# Altium integrated library Microchip Microcontroller 8-Bit PIC17.IntLib: 400 symbols (part 12 of 18)
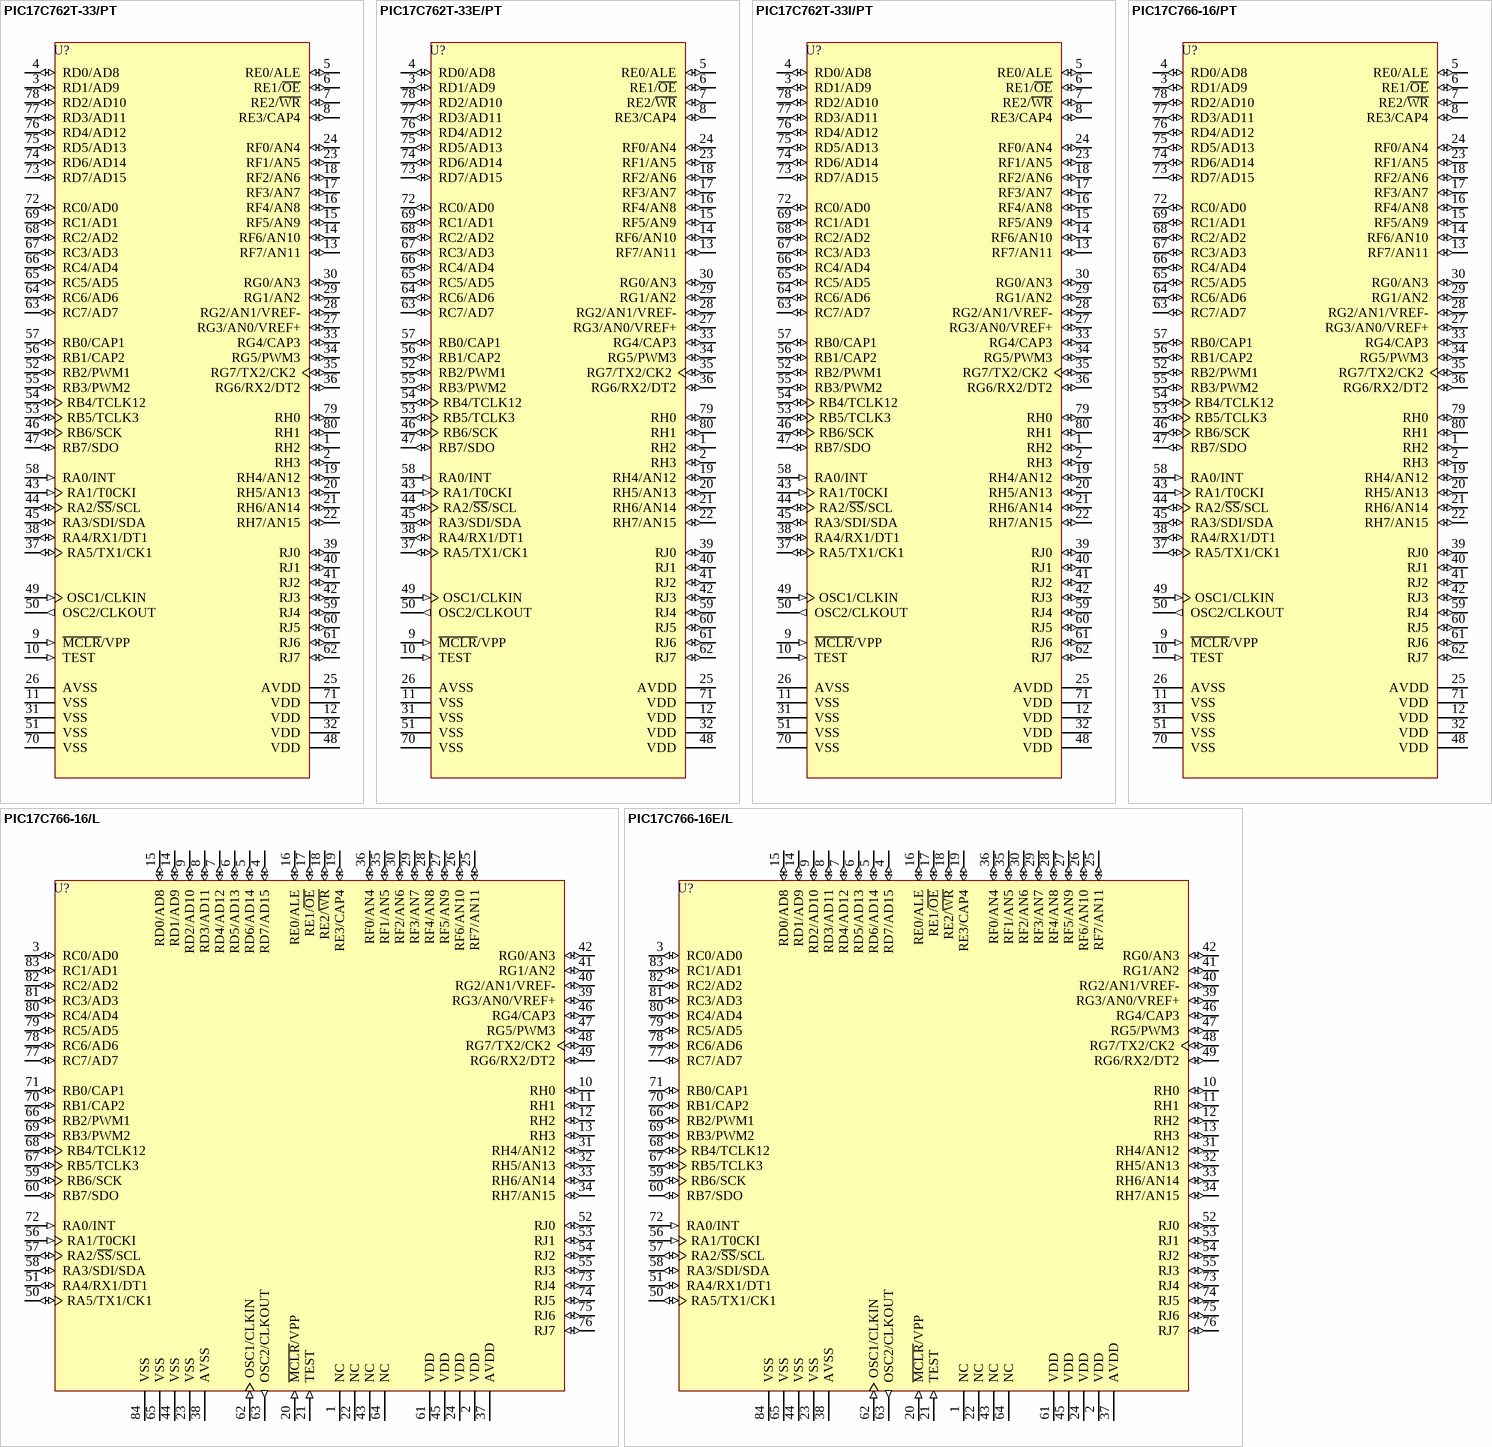
[diagram p52: symbols PIC17C762T-33/PT to PIC17C766-16E/L]

## PIC17C762T-33I/PT
designator U?
High-Performance 8-Bit CMOS EPROM Microcontroller with 10-Bit A/D, 8K (x16) EPROM, 33 MHz, 80-Pin TQFP, Standard VDD Range, Industrial Temperature, Tape and Reel; Note: Not recommended for new designs. Consider PIC18F8520 instead.; Note: Pins RA2 and RA3 can sink up to 60 mA.; Published: 11-Oct-2004; LatestRevisionDate: 13-Apr-2006; LatestRevisionNote: IPC-7351 Footprint Added.; DatasheetVersion: DS30289B_2000; PackageVersion: 2003; PackageReference: TQFP-80; Publisher: Altium Limited; PackageDescription: 80-Pin Thin Plastic Quad Flat Pack 0.5 mm Pitch, 1.0/0.1 mm Lead Form; Code_JEDEC: MS-026; ComponentLink1Description: Manufacturer Link; ComponentLink1URL: http://www.microchip.com; ComponentLink2Description: Datasheet; ComponentLink2URL: http://ww1.microchip.com/downloads/en/DeviceDoc/30289b.pdf; ComponentLink3Description: Packaging Specification; ComponentLink3URL: http://ww1.microchip.com/downloads/en/PackagingSpec/00049AD.pdf
footprint TQFP-80_N (Thin QFP, 80-Leads, Body 12x12mm, Pitch 0.5mm, IPC Medium Density)
footprint TQFP-80_L (Thin QFP, 80-Leads, Body 12x12mm, Pitch 0.5mm, IPC High Density)
footprint TQFP-80_M (Thin QFP, 80-Leads, Body 12x12mm, Pitch 0.5mm, IPC Low Density)
3D model PIC17C762-TQFP-80 (80-Pin Thin Plastic Quad Flat Pack 0.5 mm Pitch, 1.0/0.1 mm Lead Form)
pins: 1 RH2 (io), 2 RH3 (io), 3 RD1/AD9 (io), 4 RD0/AD8 (io), 5 RE0/ALE (io), 6 RE1/~{OE} (io), 7 RE2/~{WR} (io), 8 RE3/CAP4 (io), 9 ~{MCLR}/VPP (in), 10 TEST (in), 11 VSS (power), 12 VDD (power), 13 RF7/AN11 (io), 14 RF6/AN10 (io), 15 RF5/AN9 (io), 16 RF4/AN8 (io), 17 RF3/AN7 (io), 18 RF2/AN6 (io), 19 RH4/AN12 (io), 20 RH5/AN13 (io), 21 RH6/AN14 (io), 22 RH7/AN15 (io), 23 RF1/AN5 (io), 24 RF0/AN4 (io), 25 AVDD (power), 26 AVSS (power), 27 RG3/AN0/VREF+ (io), 28 RG2/AN1/VREF- (io), 29 RG1/AN2 (io), 30 RG0/AN3 (io), 31 VSS (power), 32 VDD (power), 33 RG4/CAP3 (io), 34 RG5/PWM3 (io), 35 RG7/TX2/CK2 (io), 36 RG6/RX2/DT2 (io), 37 RA5/TX1/CK1 (io), 38 RA4/RX1/DT1 (io), 39 RJ0 (io), 40 RJ1 (io), 41 RJ2 (io), 42 RJ3 (io), 43 RA1/T0CKI (in), 44 RA2/~{SS}/SCL (io), 45 RA3/SDI/SDA (io), 46 RB6/SCK (io), 47 RB7/SDO (io), 48 VDD (power), 49 OSC1/CLKIN (in), 50 OSC2/CLKOUT (out), 51 VSS (power), 52 RB2/PWM1 (io), 53 RB5/TCLK3 (io), 54 RB4/TCLK12 (io), 55 RB3/PWM2 (io), 56 RB1/CAP2 (io), 57 RB0/CAP1 (io), 58 RA0/INT (in), 59 RJ4 (io), 60 RJ5 (io), 61 RJ6 (io), 62 RJ7 (io), 63 RC7/AD7 (io), 64 RC6/AD6 (io), 65 RC5/AD5 (io), 66 RC4/AD4 (io), 67 RC3/AD3 (io), 68 RC2/AD2 (io), 69 RC1/AD1 (io), 70 VSS (power), 71 VDD (power), 72 RC0/AD0 (io), 73 RD7/AD15 (io), 74 RD6/AD14 (io), 75 RD5/AD13 (io), 76 RD4/AD12 (io), 77 RD3/AD11 (io), 78 RD2/AD10 (io), 79 RH0 (io), 80 RH1 (io)

## PIC17C766-16/L
designator U?
High-Performance 8-Bit CMOS EPROM Microcontroller with 10-Bit A/D, 16K (x16) EPROM, 16 MHz, 84-Pin PLCC, Standard VDD Range, Commercial Temperature; Note: Not recommended for new designs. Consider PIC18F8520 instead.; Note: Pins RA2 and RA3 can sink up to 60 mA.; Published: 11-Oct-2004; LatestRevisionDate: 13-Apr-2006; LatestRevisionNote: IPC-7351 Footprint Added.; DatasheetVersion: DS30289B_2000; PackageVersion: 2003; PackageReference: PLCC-84; Publisher: Altium Limited; PackageDescription: 84-Pin Plastic Leaded Chip Carrier 1.27 mm Pitch; Code_JEDEC: MO-047; Code_IPC: PLCC-84; ComponentLink1Description: Manufacturer Link; ComponentLink1URL: http://www.microchip.com; ComponentLink2Description: Datasheet; ComponentLink2URL: http://ww1.microchip.com/downloads/en/DeviceDoc/30289b.pdf; ComponentLink3Description: Packaging Specification; ComponentLink3URL: http://ww1.microchip.com/downloads/en/PackagingSpec/00049AD.pdf
footprint PLCC-84_N (Leaded Chip Carrier, 84-Leads, Body 29.3x29.3mm, Pitch 1.27mm, IPC Medium Density)
footprint PLCC-84_L (Leaded Chip Carrier, 84-Leads, Body 29.3x29.3mm, Pitch 1.27mm, IPC High Density)
footprint PLCC-84_M (Leaded Chip Carrier, 84-Leads, Body 29.3x29.3mm, Pitch 1.27mm, IPC Low Density)
3D model PIC17C766-PLCC-84 (84-Pin Plastic Leaded Chip Carrier 1.27 mm Pitch)
pins: 1 NC, 2 VDD (power), 3 RC0/AD0 (io), 4 RD7/AD15 (io), 5 RD6/AD14 (io), 6 RD5/AD13 (io), 7 RD4/AD12 (io), 8 RD3/AD11 (io), 9 RD2/AD10 (io), 10 RH0 (io), 11 RH1 (io), 12 RH2 (io), 13 RH3 (io), 14 RD1/AD9 (io), 15 RD0/AD8 (io), 16 RE0/ALE (io), 17 RE1/~{OE} (io), 18 RE2/~{WR} (io), 19 RE3/CAP4 (io), 20 ~{MCLR}/VPP (in), 21 TEST (in), 22 NC, 23 VSS (power), 24 VDD (power), 25 RF7/AN11 (io), 26 RF6/AN10 (io), 27 RF5/AN9 (io), 28 RF4/AN8 (io), 29 RF3/AN7 (io), 30 RF2/AN6 (io), 31 RH4/AN12 (io), 32 RH5/AN13 (io), 33 RH6/AN14 (io), 34 RH7/AN15 (io), 35 RF1/AN5 (io), 36 RF0/AN4 (io), 37 AVDD (power), 38 AVSS (power), 39 RG3/AN0/VREF+ (io), 40 RG2/AN1/VREF- (io), 41 RG1/AN2 (io), 42 RG0/AN3 (io), 43 NC, 44 VSS (power), 45 VDD (power), 46 RG4/CAP3 (io), 47 RG5/PWM3 (io), 48 RG7/TX2/CK2 (io), 49 RG6/RX2/DT2 (io), 50 RA5/TX1/CK1 (io), 51 RA4/RX1/DT1 (io), 52 RJ0 (io), 53 RJ1 (io), 54 RJ2 (io), 55 RJ3 (io), 56 RA1/T0CKI (in), 57 RA2/~{SS}/SCL (io), 58 RA3/SDI/SDA (io), 59 RB6/SCK (io), 60 RB7/SDO (io), 61 VDD (power), 62 OSC1/CLKIN (in), 63 OSC2/CLKOUT (out), 64 NC, 65 VSS (power), 66 RB2/PWM1 (io), 67 RB5/TCLK3 (io), 68 RB4/TCLK12 (io), 69 RB3/PWM2 (io), 70 RB1/CAP2 (io), 71 RB0/CAP1 (io), 72 RA0/INT (in), 73 RJ4 (io), 74 RJ5 (io), 75 RJ6 (io), 76 RJ7 (io), 77 RC7/AD7 (io), 78 RC6/AD6 (io), 79 RC5/AD5 (io), 80 RC4/AD4 (io), 81 RC3/AD3 (io), 82 RC2/AD2 (io), 83 RC1/AD1 (io), 84 VSS (power)

## PIC17C766-16/PT
designator U?
High-Performance 8-Bit CMOS EPROM Microcontroller with 10-Bit A/D, 16K (x16) EPROM, 16 MHz, 80-Pin TQFP, Standard VDD Range, Commercial Temperature; Note: Not recommended for new designs. Consider PIC18F8520 instead.; Note: Pins RA2 and RA3 can sink up to 60 mA.; Published: 11-Oct-2004; LatestRevisionDate: 13-Apr-2006; LatestRevisionNote: IPC-7351 Footprint Added.; DatasheetVersion: DS30289B_2000; PackageVersion: 2003; PackageReference: TQFP-80; Publisher: Altium Limited; PackageDescription: 80-Pin Thin Plastic Quad Flat Pack 0.5 mm Pitch, 1.0/0.1 mm Lead Form; Code_JEDEC: MS-026; ComponentLink1Description: Manufacturer Link; ComponentLink1URL: http://www.microchip.com; ComponentLink2Description: Datasheet; ComponentLink2URL: http://ww1.microchip.com/downloads/en/DeviceDoc/30289b.pdf; ComponentLink3Description: Packaging Specification; ComponentLink3URL: http://ww1.microchip.com/downloads/en/PackagingSpec/00049AD.pdf
footprint TQFP-80_N (Thin QFP, 80-Leads, Body 12x12mm, Pitch 0.5mm, IPC Medium Density)
footprint TQFP-80_L (Thin QFP, 80-Leads, Body 12x12mm, Pitch 0.5mm, IPC High Density)
footprint TQFP-80_M (Thin QFP, 80-Leads, Body 12x12mm, Pitch 0.5mm, IPC Low Density)
3D model PIC17C766-TQFP-80 (80-Pin Thin Plastic Quad Flat Pack 0.5 mm Pitch, 1.0/0.1 mm Lead Form)
pins: 1 RH2 (io), 2 RH3 (io), 3 RD1/AD9 (io), 4 RD0/AD8 (io), 5 RE0/ALE (io), 6 RE1/~{OE} (io), 7 RE2/~{WR} (io), 8 RE3/CAP4 (io), 9 ~{MCLR}/VPP (in), 10 TEST (in), 11 VSS (power), 12 VDD (power), 13 RF7/AN11 (io), 14 RF6/AN10 (io), 15 RF5/AN9 (io), 16 RF4/AN8 (io), 17 RF3/AN7 (io), 18 RF2/AN6 (io), 19 RH4/AN12 (io), 20 RH5/AN13 (io), 21 RH6/AN14 (io), 22 RH7/AN15 (io), 23 RF1/AN5 (io), 24 RF0/AN4 (io), 25 AVDD (power), 26 AVSS (power), 27 RG3/AN0/VREF+ (io), 28 RG2/AN1/VREF- (io), 29 RG1/AN2 (io), 30 RG0/AN3 (io), 31 VSS (power), 32 VDD (power), 33 RG4/CAP3 (io), 34 RG5/PWM3 (io), 35 RG7/TX2/CK2 (io), 36 RG6/RX2/DT2 (io), 37 RA5/TX1/CK1 (io), 38 RA4/RX1/DT1 (io), 39 RJ0 (io), 40 RJ1 (io), 41 RJ2 (io), 42 RJ3 (io), 43 RA1/T0CKI (in), 44 RA2/~{SS}/SCL (io), 45 RA3/SDI/SDA (io), 46 RB6/SCK (io), 47 RB7/SDO (io), 48 VDD (power), 49 OSC1/CLKIN (in), 50 OSC2/CLKOUT (out), 51 VSS (power), 52 RB2/PWM1 (io), 53 RB5/TCLK3 (io), 54 RB4/TCLK12 (io), 55 RB3/PWM2 (io), 56 RB1/CAP2 (io), 57 RB0/CAP1 (io), 58 RA0/INT (in), 59 RJ4 (io), 60 RJ5 (io), 61 RJ6 (io), 62 RJ7 (io), 63 RC7/AD7 (io), 64 RC6/AD6 (io), 65 RC5/AD5 (io), 66 RC4/AD4 (io), 67 RC3/AD3 (io), 68 RC2/AD2 (io), 69 RC1/AD1 (io), 70 VSS (power), 71 VDD (power), 72 RC0/AD0 (io), 73 RD7/AD15 (io), 74 RD6/AD14 (io), 75 RD5/AD13 (io), 76 RD4/AD12 (io), 77 RD3/AD11 (io), 78 RD2/AD10 (io), 79 RH0 (io), 80 RH1 (io)

## PIC17C766-16E/L
designator U?
High-Performance 8-Bit CMOS EPROM Microcontroller with 10-Bit A/D, 16K (x16) EPROM, 16 MHz, 84-Pin PLCC, Standard VDD Range, Extended Temperature; Note: Not recommended for new designs. Consider PIC18F8520 instead.; Note: Pins RA2 and RA3 can sink up to 60 mA.; Published: 11-Oct-2004; LatestRevisionDate: 13-Apr-2006; LatestRevisionNote: IPC-7351 Footprint Added.; DatasheetVersion: DS30289B_2000; PackageVersion: 2003; PackageReference: PLCC-84; Publisher: Altium Limited; PackageDescription: 84-Pin Plastic Leaded Chip Carrier 1.27 mm Pitch; Code_JEDEC: MO-047; Code_IPC: PLCC-84; ComponentLink1Description: Manufacturer Link; ComponentLink1URL: http://www.microchip.com; ComponentLink2Description: Datasheet; ComponentLink2URL: http://ww1.microchip.com/downloads/en/DeviceDoc/30289b.pdf; ComponentLink3Description: Packaging Specification; ComponentLink3URL: http://ww1.microchip.com/downloads/en/PackagingSpec/00049AD.pdf
footprint PLCC-84_N (Leaded Chip Carrier, 84-Leads, Body 29.3x29.3mm, Pitch 1.27mm, IPC Medium Density)
footprint PLCC-84_L (Leaded Chip Carrier, 84-Leads, Body 29.3x29.3mm, Pitch 1.27mm, IPC High Density)
footprint PLCC-84_M (Leaded Chip Carrier, 84-Leads, Body 29.3x29.3mm, Pitch 1.27mm, IPC Low Density)
3D model PIC17C766-PLCC-84 (84-Pin Plastic Leaded Chip Carrier 1.27 mm Pitch)
pins: 1 NC, 2 VDD (power), 3 RC0/AD0 (io), 4 RD7/AD15 (io), 5 RD6/AD14 (io), 6 RD5/AD13 (io), 7 RD4/AD12 (io), 8 RD3/AD11 (io), 9 RD2/AD10 (io), 10 RH0 (io), 11 RH1 (io), 12 RH2 (io), 13 RH3 (io), 14 RD1/AD9 (io), 15 RD0/AD8 (io), 16 RE0/ALE (io), 17 RE1/~{OE} (io), 18 RE2/~{WR} (io), 19 RE3/CAP4 (io), 20 ~{MCLR}/VPP (in), 21 TEST (in), 22 NC, 23 VSS (power), 24 VDD (power), 25 RF7/AN11 (io), 26 RF6/AN10 (io), 27 RF5/AN9 (io), 28 RF4/AN8 (io), 29 RF3/AN7 (io), 30 RF2/AN6 (io), 31 RH4/AN12 (io), 32 RH5/AN13 (io), 33 RH6/AN14 (io), 34 RH7/AN15 (io), 35 RF1/AN5 (io), 36 RF0/AN4 (io), 37 AVDD (power), 38 AVSS (power), 39 RG3/AN0/VREF+ (io), 40 RG2/AN1/VREF- (io), 41 RG1/AN2 (io), 42 RG0/AN3 (io), 43 NC, 44 VSS (power), 45 VDD (power), 46 RG4/CAP3 (io), 47 RG5/PWM3 (io), 48 RG7/TX2/CK2 (io), 49 RG6/RX2/DT2 (io), 50 RA5/TX1/CK1 (io), 51 RA4/RX1/DT1 (io), 52 RJ0 (io), 53 RJ1 (io), 54 RJ2 (io), 55 RJ3 (io), 56 RA1/T0CKI (in), 57 RA2/~{SS}/SCL (io), 58 RA3/SDI/SDA (io), 59 RB6/SCK (io), 60 RB7/SDO (io), 61 VDD (power), 62 OSC1/CLKIN (in), 63 OSC2/CLKOUT (out), 64 NC, 65 VSS (power), 66 RB2/PWM1 (io), 67 RB5/TCLK3 (io), 68 RB4/TCLK12 (io), 69 RB3/PWM2 (io), 70 RB1/CAP2 (io), 71 RB0/CAP1 (io), 72 RA0/INT (in), 73 RJ4 (io), 74 RJ5 (io), 75 RJ6 (io), 76 RJ7 (io), 77 RC7/AD7 (io), 78 RC6/AD6 (io), 79 RC5/AD5 (io), 80 RC4/AD4 (io), 81 RC3/AD3 (io), 82 RC2/AD2 (io), 83 RC1/AD1 (io), 84 VSS (power)

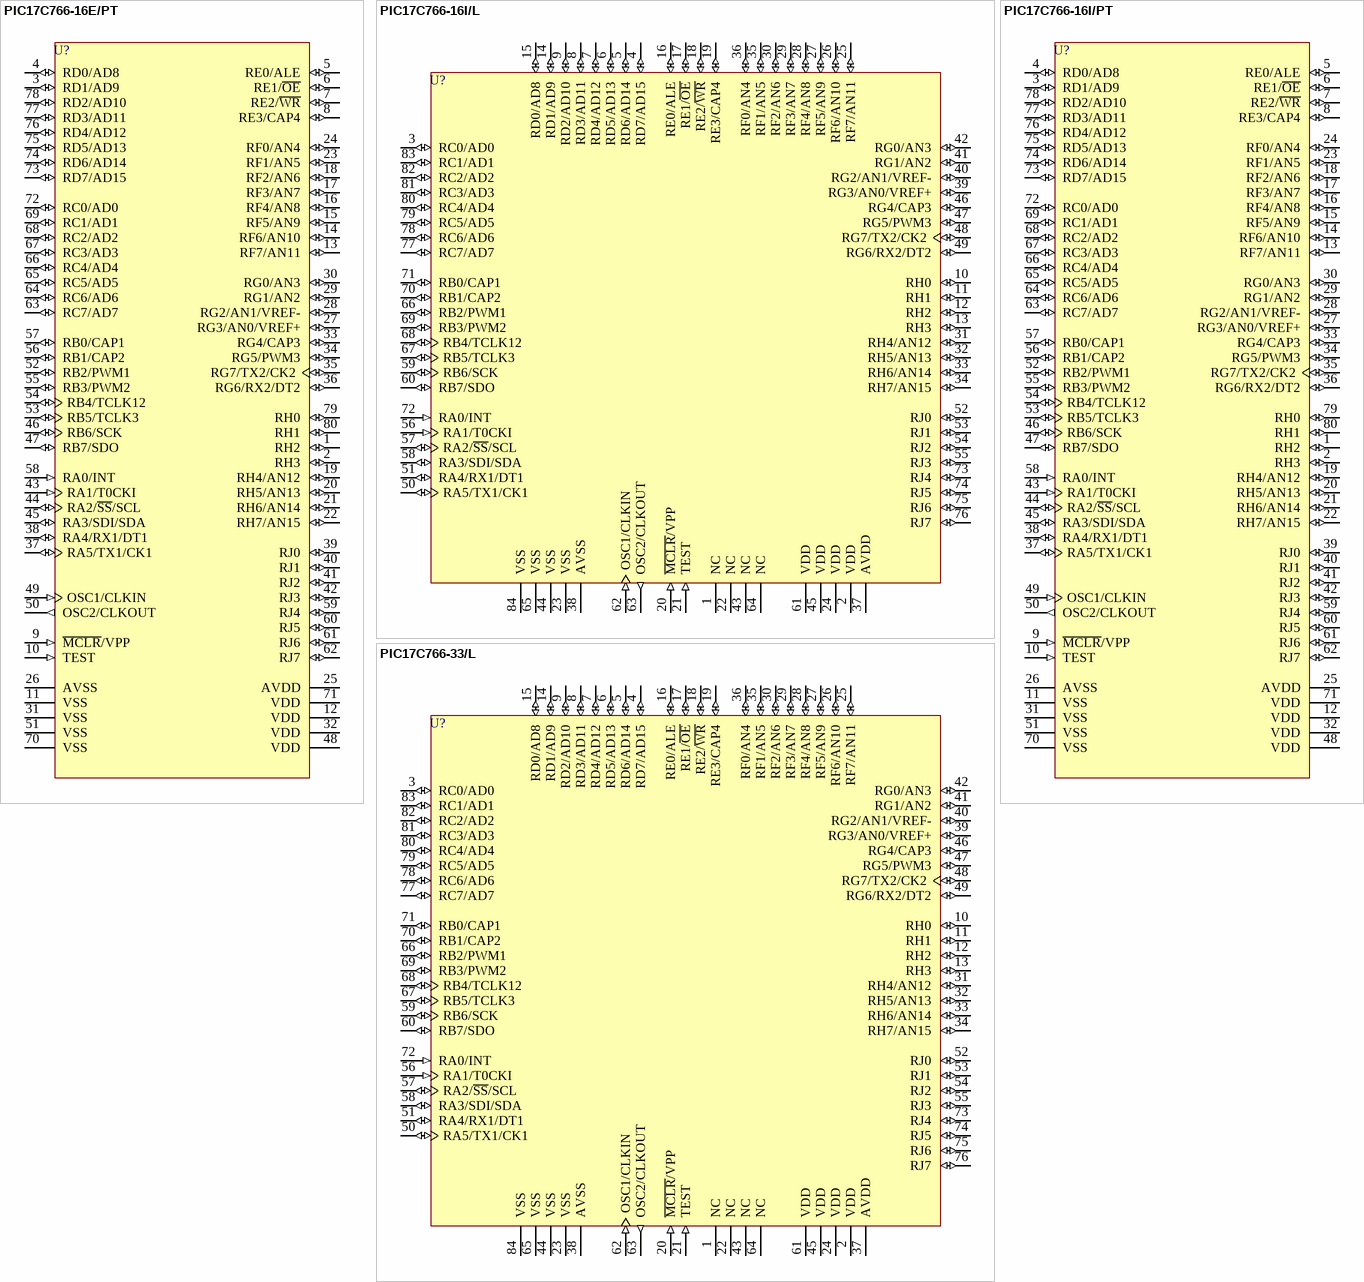
[diagram p26: symbols PIC17C766-16E/PT to PIC17C766-33/L]

## PIC17C766-16E/PT
designator U?
High-Performance 8-Bit CMOS EPROM Microcontroller with 10-Bit A/D, 16K (x16) EPROM, 16 MHz, 80-Pin TQFP, Standard VDD Range, Extended Temperature; Note: Not recommended for new designs. Consider PIC18F8520 instead.; Note: Pins RA2 and RA3 can sink up to 60 mA.; Published: 11-Oct-2004; LatestRevisionDate: 13-Apr-2006; LatestRevisionNote: IPC-7351 Footprint Added.; DatasheetVersion: DS30289B_2000; PackageVersion: 2003; PackageReference: TQFP-80; Publisher: Altium Limited; PackageDescription: 80-Pin Thin Plastic Quad Flat Pack 0.5 mm Pitch, 1.0/0.1 mm Lead Form; Code_JEDEC: MS-026; ComponentLink1Description: Manufacturer Link; ComponentLink1URL: http://www.microchip.com; ComponentLink2Description: Datasheet; ComponentLink2URL: http://ww1.microchip.com/downloads/en/DeviceDoc/30289b.pdf; ComponentLink3Description: Packaging Specification; ComponentLink3URL: http://ww1.microchip.com/downloads/en/PackagingSpec/00049AD.pdf
footprint TQFP-80_N (Thin QFP, 80-Leads, Body 12x12mm, Pitch 0.5mm, IPC Medium Density)
footprint TQFP-80_L (Thin QFP, 80-Leads, Body 12x12mm, Pitch 0.5mm, IPC High Density)
footprint TQFP-80_M (Thin QFP, 80-Leads, Body 12x12mm, Pitch 0.5mm, IPC Low Density)
3D model PIC17C766-TQFP-80 (80-Pin Thin Plastic Quad Flat Pack 0.5 mm Pitch, 1.0/0.1 mm Lead Form)
pins: 1 RH2 (io), 2 RH3 (io), 3 RD1/AD9 (io), 4 RD0/AD8 (io), 5 RE0/ALE (io), 6 RE1/~{OE} (io), 7 RE2/~{WR} (io), 8 RE3/CAP4 (io), 9 ~{MCLR}/VPP (in), 10 TEST (in), 11 VSS (power), 12 VDD (power), 13 RF7/AN11 (io), 14 RF6/AN10 (io), 15 RF5/AN9 (io), 16 RF4/AN8 (io), 17 RF3/AN7 (io), 18 RF2/AN6 (io), 19 RH4/AN12 (io), 20 RH5/AN13 (io), 21 RH6/AN14 (io), 22 RH7/AN15 (io), 23 RF1/AN5 (io), 24 RF0/AN4 (io), 25 AVDD (power), 26 AVSS (power), 27 RG3/AN0/VREF+ (io), 28 RG2/AN1/VREF- (io), 29 RG1/AN2 (io), 30 RG0/AN3 (io), 31 VSS (power), 32 VDD (power), 33 RG4/CAP3 (io), 34 RG5/PWM3 (io), 35 RG7/TX2/CK2 (io), 36 RG6/RX2/DT2 (io), 37 RA5/TX1/CK1 (io), 38 RA4/RX1/DT1 (io), 39 RJ0 (io), 40 RJ1 (io), 41 RJ2 (io), 42 RJ3 (io), 43 RA1/T0CKI (in), 44 RA2/~{SS}/SCL (io), 45 RA3/SDI/SDA (io), 46 RB6/SCK (io), 47 RB7/SDO (io), 48 VDD (power), 49 OSC1/CLKIN (in), 50 OSC2/CLKOUT (out), 51 VSS (power), 52 RB2/PWM1 (io), 53 RB5/TCLK3 (io), 54 RB4/TCLK12 (io), 55 RB3/PWM2 (io), 56 RB1/CAP2 (io), 57 RB0/CAP1 (io), 58 RA0/INT (in), 59 RJ4 (io), 60 RJ5 (io), 61 RJ6 (io), 62 RJ7 (io), 63 RC7/AD7 (io), 64 RC6/AD6 (io), 65 RC5/AD5 (io), 66 RC4/AD4 (io), 67 RC3/AD3 (io), 68 RC2/AD2 (io), 69 RC1/AD1 (io), 70 VSS (power), 71 VDD (power), 72 RC0/AD0 (io), 73 RD7/AD15 (io), 74 RD6/AD14 (io), 75 RD5/AD13 (io), 76 RD4/AD12 (io), 77 RD3/AD11 (io), 78 RD2/AD10 (io), 79 RH0 (io), 80 RH1 (io)

## PIC17C766-16I/L
designator U?
High-Performance 8-Bit CMOS EPROM Microcontroller with 10-Bit A/D, 16K (x16) EPROM, 16 MHz, 84-Pin PLCC, Standard VDD Range, Industrial Temperature; Note: Not recommended for new designs. Consider PIC18F8520 instead.; Note: Pins RA2 and RA3 can sink up to 60 mA.; Published: 11-Oct-2004; LatestRevisionDate: 13-Apr-2006; LatestRevisionNote: IPC-7351 Footprint Added.; DatasheetVersion: DS30289B_2000; PackageVersion: 2003; PackageReference: PLCC-84; Publisher: Altium Limited; PackageDescription: 84-Pin Plastic Leaded Chip Carrier 1.27 mm Pitch; Code_JEDEC: MO-047; Code_IPC: PLCC-84; ComponentLink1Description: Manufacturer Link; ComponentLink1URL: http://www.microchip.com; ComponentLink2Description: Datasheet; ComponentLink2URL: http://ww1.microchip.com/downloads/en/DeviceDoc/30289b.pdf; ComponentLink3Description: Packaging Specification; ComponentLink3URL: http://ww1.microchip.com/downloads/en/PackagingSpec/00049AD.pdf
footprint PLCC-84_N (Leaded Chip Carrier, 84-Leads, Body 29.3x29.3mm, Pitch 1.27mm, IPC Medium Density)
footprint PLCC-84_L (Leaded Chip Carrier, 84-Leads, Body 29.3x29.3mm, Pitch 1.27mm, IPC High Density)
footprint PLCC-84_M (Leaded Chip Carrier, 84-Leads, Body 29.3x29.3mm, Pitch 1.27mm, IPC Low Density)
3D model PIC17C766-PLCC-84 (84-Pin Plastic Leaded Chip Carrier 1.27 mm Pitch)
pins: 1 NC, 2 VDD (power), 3 RC0/AD0 (io), 4 RD7/AD15 (io), 5 RD6/AD14 (io), 6 RD5/AD13 (io), 7 RD4/AD12 (io), 8 RD3/AD11 (io), 9 RD2/AD10 (io), 10 RH0 (io), 11 RH1 (io), 12 RH2 (io), 13 RH3 (io), 14 RD1/AD9 (io), 15 RD0/AD8 (io), 16 RE0/ALE (io), 17 RE1/~{OE} (io), 18 RE2/~{WR} (io), 19 RE3/CAP4 (io), 20 ~{MCLR}/VPP (in), 21 TEST (in), 22 NC, 23 VSS (power), 24 VDD (power), 25 RF7/AN11 (io), 26 RF6/AN10 (io), 27 RF5/AN9 (io), 28 RF4/AN8 (io), 29 RF3/AN7 (io), 30 RF2/AN6 (io), 31 RH4/AN12 (io), 32 RH5/AN13 (io), 33 RH6/AN14 (io), 34 RH7/AN15 (io), 35 RF1/AN5 (io), 36 RF0/AN4 (io), 37 AVDD (power), 38 AVSS (power), 39 RG3/AN0/VREF+ (io), 40 RG2/AN1/VREF- (io), 41 RG1/AN2 (io), 42 RG0/AN3 (io), 43 NC, 44 VSS (power), 45 VDD (power), 46 RG4/CAP3 (io), 47 RG5/PWM3 (io), 48 RG7/TX2/CK2 (io), 49 RG6/RX2/DT2 (io), 50 RA5/TX1/CK1 (io), 51 RA4/RX1/DT1 (io), 52 RJ0 (io), 53 RJ1 (io), 54 RJ2 (io), 55 RJ3 (io), 56 RA1/T0CKI (in), 57 RA2/~{SS}/SCL (io), 58 RA3/SDI/SDA (io), 59 RB6/SCK (io), 60 RB7/SDO (io), 61 VDD (power), 62 OSC1/CLKIN (in), 63 OSC2/CLKOUT (out), 64 NC, 65 VSS (power), 66 RB2/PWM1 (io), 67 RB5/TCLK3 (io), 68 RB4/TCLK12 (io), 69 RB3/PWM2 (io), 70 RB1/CAP2 (io), 71 RB0/CAP1 (io), 72 RA0/INT (in), 73 RJ4 (io), 74 RJ5 (io), 75 RJ6 (io), 76 RJ7 (io), 77 RC7/AD7 (io), 78 RC6/AD6 (io), 79 RC5/AD5 (io), 80 RC4/AD4 (io), 81 RC3/AD3 (io), 82 RC2/AD2 (io), 83 RC1/AD1 (io), 84 VSS (power)

## PIC17C766-16I/PT
designator U?
High-Performance 8-Bit CMOS EPROM Microcontroller with 10-Bit A/D, 16K (x16) EPROM, 16 MHz, 80-Pin TQFP, Standard VDD Range, Industrial Temperature; Note: Not recommended for new designs. Consider PIC18F8520 instead.; Note: Pins RA2 and RA3 can sink up to 60 mA.; Published: 11-Oct-2004; LatestRevisionDate: 13-Apr-2006; LatestRevisionNote: IPC-7351 Footprint Added.; DatasheetVersion: DS30289B_2000; PackageVersion: 2003; PackageReference: TQFP-80; Publisher: Altium Limited; PackageDescription: 80-Pin Thin Plastic Quad Flat Pack 0.5 mm Pitch, 1.0/0.1 mm Lead Form; Code_JEDEC: MS-026; ComponentLink1Description: Manufacturer Link; ComponentLink1URL: http://www.microchip.com; ComponentLink2Description: Datasheet; ComponentLink2URL: http://ww1.microchip.com/downloads/en/DeviceDoc/30289b.pdf; ComponentLink3Description: Packaging Specification; ComponentLink3URL: http://ww1.microchip.com/downloads/en/PackagingSpec/00049AD.pdf
footprint TQFP-80_N (Thin QFP, 80-Leads, Body 12x12mm, Pitch 0.5mm, IPC Medium Density)
footprint TQFP-80_L (Thin QFP, 80-Leads, Body 12x12mm, Pitch 0.5mm, IPC High Density)
footprint TQFP-80_M (Thin QFP, 80-Leads, Body 12x12mm, Pitch 0.5mm, IPC Low Density)
3D model PIC17C766-TQFP-80 (80-Pin Thin Plastic Quad Flat Pack 0.5 mm Pitch, 1.0/0.1 mm Lead Form)
pins: 1 RH2 (io), 2 RH3 (io), 3 RD1/AD9 (io), 4 RD0/AD8 (io), 5 RE0/ALE (io), 6 RE1/~{OE} (io), 7 RE2/~{WR} (io), 8 RE3/CAP4 (io), 9 ~{MCLR}/VPP (in), 10 TEST (in), 11 VSS (power), 12 VDD (power), 13 RF7/AN11 (io), 14 RF6/AN10 (io), 15 RF5/AN9 (io), 16 RF4/AN8 (io), 17 RF3/AN7 (io), 18 RF2/AN6 (io), 19 RH4/AN12 (io), 20 RH5/AN13 (io), 21 RH6/AN14 (io), 22 RH7/AN15 (io), 23 RF1/AN5 (io), 24 RF0/AN4 (io), 25 AVDD (power), 26 AVSS (power), 27 RG3/AN0/VREF+ (io), 28 RG2/AN1/VREF- (io), 29 RG1/AN2 (io), 30 RG0/AN3 (io), 31 VSS (power), 32 VDD (power), 33 RG4/CAP3 (io), 34 RG5/PWM3 (io), 35 RG7/TX2/CK2 (io), 36 RG6/RX2/DT2 (io), 37 RA5/TX1/CK1 (io), 38 RA4/RX1/DT1 (io), 39 RJ0 (io), 40 RJ1 (io), 41 RJ2 (io), 42 RJ3 (io), 43 RA1/T0CKI (in), 44 RA2/~{SS}/SCL (io), 45 RA3/SDI/SDA (io), 46 RB6/SCK (io), 47 RB7/SDO (io), 48 VDD (power), 49 OSC1/CLKIN (in), 50 OSC2/CLKOUT (out), 51 VSS (power), 52 RB2/PWM1 (io), 53 RB5/TCLK3 (io), 54 RB4/TCLK12 (io), 55 RB3/PWM2 (io), 56 RB1/CAP2 (io), 57 RB0/CAP1 (io), 58 RA0/INT (in), 59 RJ4 (io), 60 RJ5 (io), 61 RJ6 (io), 62 RJ7 (io), 63 RC7/AD7 (io), 64 RC6/AD6 (io), 65 RC5/AD5 (io), 66 RC4/AD4 (io), 67 RC3/AD3 (io), 68 RC2/AD2 (io), 69 RC1/AD1 (io), 70 VSS (power), 71 VDD (power), 72 RC0/AD0 (io), 73 RD7/AD15 (io), 74 RD6/AD14 (io), 75 RD5/AD13 (io), 76 RD4/AD12 (io), 77 RD3/AD11 (io), 78 RD2/AD10 (io), 79 RH0 (io), 80 RH1 (io)

## PIC17C766-33/L
designator U?
High-Performance 8-Bit CMOS EPROM Microcontroller with 10-Bit A/D, 16K (x16) EPROM, 33 MHz, 84-Pin PLCC, Standard VDD Range, Commercial Temperature; Note: Not recommended for new designs. Consider PIC18F8520 instead.; Note: Pins RA2 and RA3 can sink up to 60 mA.; Published: 11-Oct-2004; LatestRevisionDate: 13-Apr-2006; LatestRevisionNote: IPC-7351 Footprint Added.; DatasheetVersion: DS30289B_2000; PackageVersion: 2003; PackageReference: PLCC-84; Publisher: Altium Limited; PackageDescription: 84-Pin Plastic Leaded Chip Carrier 1.27 mm Pitch; Code_JEDEC: MO-047; Code_IPC: PLCC-84; ComponentLink1Description: Manufacturer Link; ComponentLink1URL: http://www.microchip.com; ComponentLink2Description: Datasheet; ComponentLink2URL: http://ww1.microchip.com/downloads/en/DeviceDoc/30289b.pdf; ComponentLink3Description: Packaging Specification; ComponentLink3URL: http://ww1.microchip.com/downloads/en/PackagingSpec/00049AD.pdf
footprint PLCC-84_N (Leaded Chip Carrier, 84-Leads, Body 29.3x29.3mm, Pitch 1.27mm, IPC Medium Density)
footprint PLCC-84_L (Leaded Chip Carrier, 84-Leads, Body 29.3x29.3mm, Pitch 1.27mm, IPC High Density)
footprint PLCC-84_M (Leaded Chip Carrier, 84-Leads, Body 29.3x29.3mm, Pitch 1.27mm, IPC Low Density)
3D model PIC17C766-PLCC-84 (84-Pin Plastic Leaded Chip Carrier 1.27 mm Pitch)
pins: 1 NC, 2 VDD (power), 3 RC0/AD0 (io), 4 RD7/AD15 (io), 5 RD6/AD14 (io), 6 RD5/AD13 (io), 7 RD4/AD12 (io), 8 RD3/AD11 (io), 9 RD2/AD10 (io), 10 RH0 (io), 11 RH1 (io), 12 RH2 (io), 13 RH3 (io), 14 RD1/AD9 (io), 15 RD0/AD8 (io), 16 RE0/ALE (io), 17 RE1/~{OE} (io), 18 RE2/~{WR} (io), 19 RE3/CAP4 (io), 20 ~{MCLR}/VPP (in), 21 TEST (in), 22 NC, 23 VSS (power), 24 VDD (power), 25 RF7/AN11 (io), 26 RF6/AN10 (io), 27 RF5/AN9 (io), 28 RF4/AN8 (io), 29 RF3/AN7 (io), 30 RF2/AN6 (io), 31 RH4/AN12 (io), 32 RH5/AN13 (io), 33 RH6/AN14 (io), 34 RH7/AN15 (io), 35 RF1/AN5 (io), 36 RF0/AN4 (io), 37 AVDD (power), 38 AVSS (power), 39 RG3/AN0/VREF+ (io), 40 RG2/AN1/VREF- (io), 41 RG1/AN2 (io), 42 RG0/AN3 (io), 43 NC, 44 VSS (power), 45 VDD (power), 46 RG4/CAP3 (io), 47 RG5/PWM3 (io), 48 RG7/TX2/CK2 (io), 49 RG6/RX2/DT2 (io), 50 RA5/TX1/CK1 (io), 51 RA4/RX1/DT1 (io), 52 RJ0 (io), 53 RJ1 (io), 54 RJ2 (io), 55 RJ3 (io), 56 RA1/T0CKI (in), 57 RA2/~{SS}/SCL (io), 58 RA3/SDI/SDA (io), 59 RB6/SCK (io), 60 RB7/SDO (io), 61 VDD (power), 62 OSC1/CLKIN (in), 63 OSC2/CLKOUT (out), 64 NC, 65 VSS (power), 66 RB2/PWM1 (io), 67 RB5/TCLK3 (io), 68 RB4/TCLK12 (io), 69 RB3/PWM2 (io), 70 RB1/CAP2 (io), 71 RB0/CAP1 (io), 72 RA0/INT (in), 73 RJ4 (io), 74 RJ5 (io), 75 RJ6 (io), 76 RJ7 (io), 77 RC7/AD7 (io), 78 RC6/AD6 (io), 79 RC5/AD5 (io), 80 RC4/AD4 (io), 81 RC3/AD3 (io), 82 RC2/AD2 (io), 83 RC1/AD1 (io), 84 VSS (power)

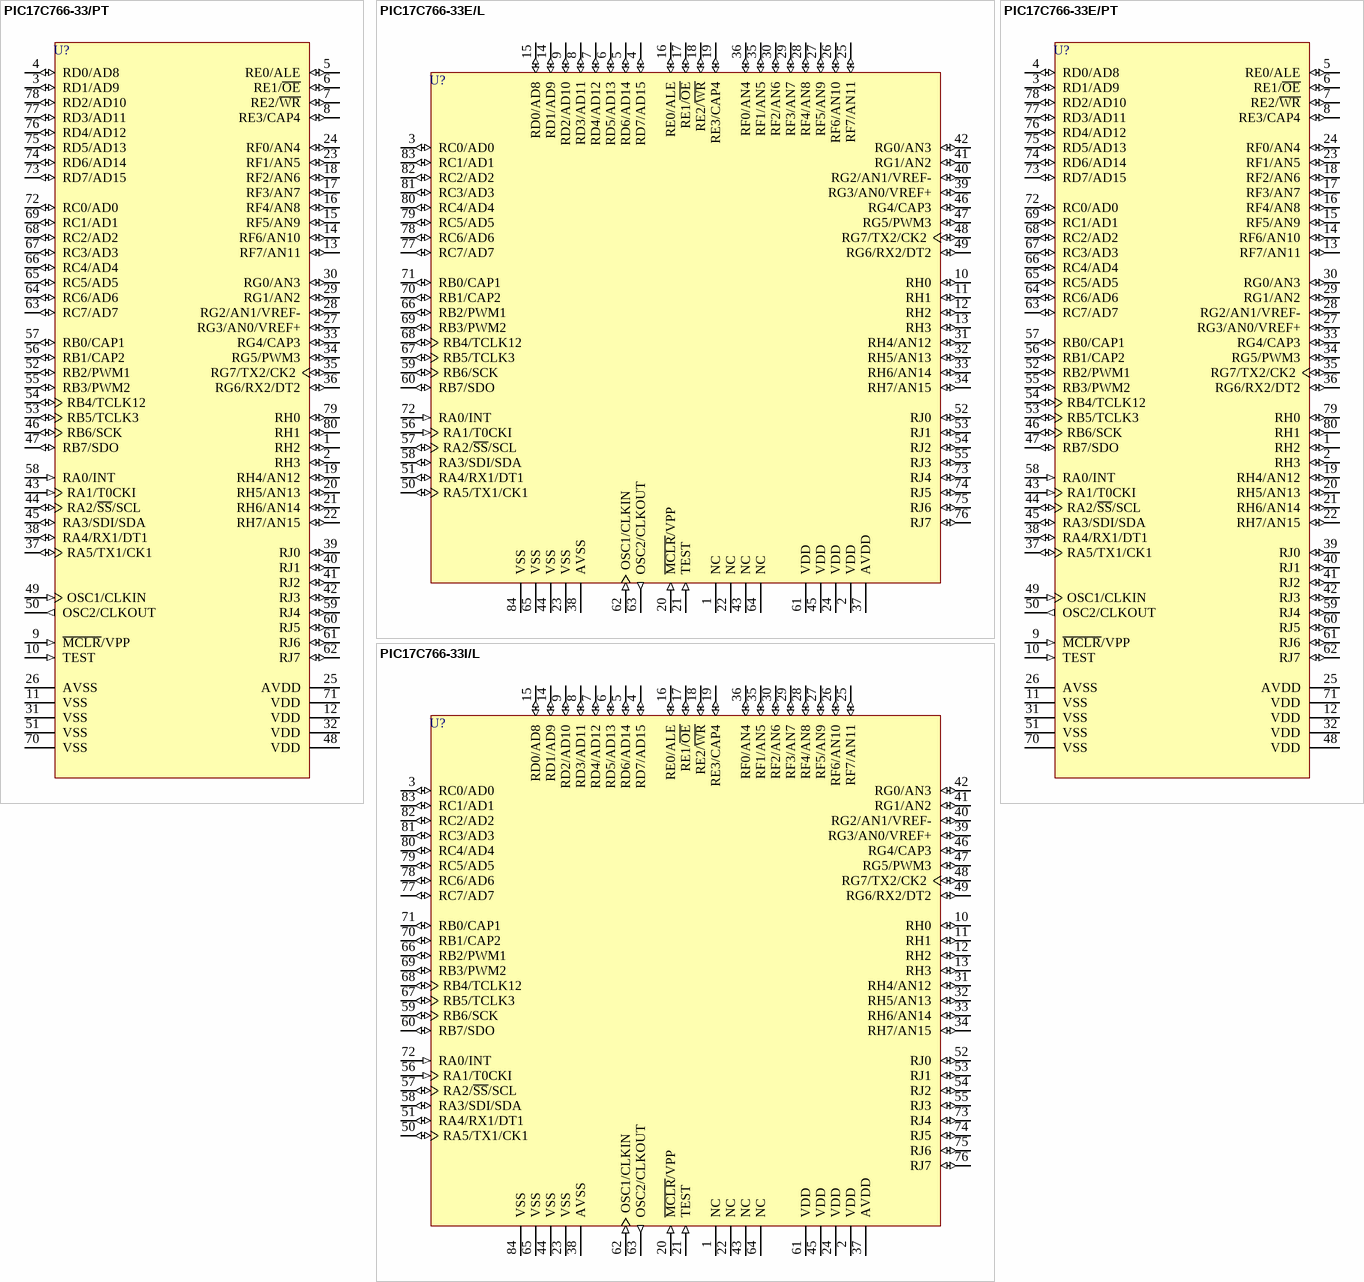
[diagram p27: symbols PIC17C766-33/PT to PIC17C766-33I/L]

## PIC17C766-33/PT
designator U?
High-Performance 8-Bit CMOS EPROM Microcontroller with 10-Bit A/D, 16K (x16) EPROM, 33 MHz, 80-Pin TQFP, Standard VDD Range, Commercial Temperature; Note: Not recommended for new designs. Consider PIC18F8520 instead.; Note: Pins RA2 and RA3 can sink up to 60 mA.; Published: 11-Oct-2004; LatestRevisionDate: 13-Apr-2006; LatestRevisionNote: IPC-7351 Footprint Added.; DatasheetVersion: DS30289B_2000; PackageVersion: 2003; PackageReference: TQFP-80; Publisher: Altium Limited; PackageDescription: 80-Pin Thin Plastic Quad Flat Pack 0.5 mm Pitch, 1.0/0.1 mm Lead Form; Code_JEDEC: MS-026; ComponentLink1Description: Manufacturer Link; ComponentLink1URL: http://www.microchip.com; ComponentLink2Description: Datasheet; ComponentLink2URL: http://ww1.microchip.com/downloads/en/DeviceDoc/30289b.pdf; ComponentLink3Description: Packaging Specification; ComponentLink3URL: http://ww1.microchip.com/downloads/en/PackagingSpec/00049AD.pdf
footprint TQFP-80_N (Thin QFP, 80-Leads, Body 12x12mm, Pitch 0.5mm, IPC Medium Density)
footprint TQFP-80_L (Thin QFP, 80-Leads, Body 12x12mm, Pitch 0.5mm, IPC High Density)
footprint TQFP-80_M (Thin QFP, 80-Leads, Body 12x12mm, Pitch 0.5mm, IPC Low Density)
3D model PIC17C766-TQFP-80 (80-Pin Thin Plastic Quad Flat Pack 0.5 mm Pitch, 1.0/0.1 mm Lead Form)
pins: 1 RH2 (io), 2 RH3 (io), 3 RD1/AD9 (io), 4 RD0/AD8 (io), 5 RE0/ALE (io), 6 RE1/~{OE} (io), 7 RE2/~{WR} (io), 8 RE3/CAP4 (io), 9 ~{MCLR}/VPP (in), 10 TEST (in), 11 VSS (power), 12 VDD (power), 13 RF7/AN11 (io), 14 RF6/AN10 (io), 15 RF5/AN9 (io), 16 RF4/AN8 (io), 17 RF3/AN7 (io), 18 RF2/AN6 (io), 19 RH4/AN12 (io), 20 RH5/AN13 (io), 21 RH6/AN14 (io), 22 RH7/AN15 (io), 23 RF1/AN5 (io), 24 RF0/AN4 (io), 25 AVDD (power), 26 AVSS (power), 27 RG3/AN0/VREF+ (io), 28 RG2/AN1/VREF- (io), 29 RG1/AN2 (io), 30 RG0/AN3 (io), 31 VSS (power), 32 VDD (power), 33 RG4/CAP3 (io), 34 RG5/PWM3 (io), 35 RG7/TX2/CK2 (io), 36 RG6/RX2/DT2 (io), 37 RA5/TX1/CK1 (io), 38 RA4/RX1/DT1 (io), 39 RJ0 (io), 40 RJ1 (io), 41 RJ2 (io), 42 RJ3 (io), 43 RA1/T0CKI (in), 44 RA2/~{SS}/SCL (io), 45 RA3/SDI/SDA (io), 46 RB6/SCK (io), 47 RB7/SDO (io), 48 VDD (power), 49 OSC1/CLKIN (in), 50 OSC2/CLKOUT (out), 51 VSS (power), 52 RB2/PWM1 (io), 53 RB5/TCLK3 (io), 54 RB4/TCLK12 (io), 55 RB3/PWM2 (io), 56 RB1/CAP2 (io), 57 RB0/CAP1 (io), 58 RA0/INT (in), 59 RJ4 (io), 60 RJ5 (io), 61 RJ6 (io), 62 RJ7 (io), 63 RC7/AD7 (io), 64 RC6/AD6 (io), 65 RC5/AD5 (io), 66 RC4/AD4 (io), 67 RC3/AD3 (io), 68 RC2/AD2 (io), 69 RC1/AD1 (io), 70 VSS (power), 71 VDD (power), 72 RC0/AD0 (io), 73 RD7/AD15 (io), 74 RD6/AD14 (io), 75 RD5/AD13 (io), 76 RD4/AD12 (io), 77 RD3/AD11 (io), 78 RD2/AD10 (io), 79 RH0 (io), 80 RH1 (io)

## PIC17C766-33E/L
designator U?
High-Performance 8-Bit CMOS EPROM Microcontroller with 10-Bit A/D, 16K (x16) EPROM, 33 MHz, 84-Pin PLCC, Standard VDD Range, Extended Temperature; Note: Not recommended for new designs. Consider PIC18F8520 instead.; Note: Pins RA2 and RA3 can sink up to 60 mA.; Published: 11-Oct-2004; LatestRevisionDate: 13-Apr-2006; LatestRevisionNote: IPC-7351 Footprint Added.; DatasheetVersion: DS30289B_2000; PackageVersion: 2003; PackageReference: PLCC-84; Publisher: Altium Limited; PackageDescription: 84-Pin Plastic Leaded Chip Carrier 1.27 mm Pitch; Code_JEDEC: MO-047; Code_IPC: PLCC-84; ComponentLink1Description: Manufacturer Link; ComponentLink1URL: http://www.microchip.com; ComponentLink2Description: Datasheet; ComponentLink2URL: http://ww1.microchip.com/downloads/en/DeviceDoc/30289b.pdf; ComponentLink3Description: Packaging Specification; ComponentLink3URL: http://ww1.microchip.com/downloads/en/PackagingSpec/00049AD.pdf
footprint PLCC-84_N (Leaded Chip Carrier, 84-Leads, Body 29.3x29.3mm, Pitch 1.27mm, IPC Medium Density)
footprint PLCC-84_L (Leaded Chip Carrier, 84-Leads, Body 29.3x29.3mm, Pitch 1.27mm, IPC High Density)
footprint PLCC-84_M (Leaded Chip Carrier, 84-Leads, Body 29.3x29.3mm, Pitch 1.27mm, IPC Low Density)
3D model PIC17C766-PLCC-84 (84-Pin Plastic Leaded Chip Carrier 1.27 mm Pitch)
pins: 1 NC, 2 VDD (power), 3 RC0/AD0 (io), 4 RD7/AD15 (io), 5 RD6/AD14 (io), 6 RD5/AD13 (io), 7 RD4/AD12 (io), 8 RD3/AD11 (io), 9 RD2/AD10 (io), 10 RH0 (io), 11 RH1 (io), 12 RH2 (io), 13 RH3 (io), 14 RD1/AD9 (io), 15 RD0/AD8 (io), 16 RE0/ALE (io), 17 RE1/~{OE} (io), 18 RE2/~{WR} (io), 19 RE3/CAP4 (io), 20 ~{MCLR}/VPP (in), 21 TEST (in), 22 NC, 23 VSS (power), 24 VDD (power), 25 RF7/AN11 (io), 26 RF6/AN10 (io), 27 RF5/AN9 (io), 28 RF4/AN8 (io), 29 RF3/AN7 (io), 30 RF2/AN6 (io), 31 RH4/AN12 (io), 32 RH5/AN13 (io), 33 RH6/AN14 (io), 34 RH7/AN15 (io), 35 RF1/AN5 (io), 36 RF0/AN4 (io), 37 AVDD (power), 38 AVSS (power), 39 RG3/AN0/VREF+ (io), 40 RG2/AN1/VREF- (io), 41 RG1/AN2 (io), 42 RG0/AN3 (io), 43 NC, 44 VSS (power), 45 VDD (power), 46 RG4/CAP3 (io), 47 RG5/PWM3 (io), 48 RG7/TX2/CK2 (io), 49 RG6/RX2/DT2 (io), 50 RA5/TX1/CK1 (io), 51 RA4/RX1/DT1 (io), 52 RJ0 (io), 53 RJ1 (io), 54 RJ2 (io), 55 RJ3 (io), 56 RA1/T0CKI (in), 57 RA2/~{SS}/SCL (io), 58 RA3/SDI/SDA (io), 59 RB6/SCK (io), 60 RB7/SDO (io), 61 VDD (power), 62 OSC1/CLKIN (in), 63 OSC2/CLKOUT (out), 64 NC, 65 VSS (power), 66 RB2/PWM1 (io), 67 RB5/TCLK3 (io), 68 RB4/TCLK12 (io), 69 RB3/PWM2 (io), 70 RB1/CAP2 (io), 71 RB0/CAP1 (io), 72 RA0/INT (in), 73 RJ4 (io), 74 RJ5 (io), 75 RJ6 (io), 76 RJ7 (io), 77 RC7/AD7 (io), 78 RC6/AD6 (io), 79 RC5/AD5 (io), 80 RC4/AD4 (io), 81 RC3/AD3 (io), 82 RC2/AD2 (io), 83 RC1/AD1 (io), 84 VSS (power)

## PIC17C766-33E/PT
designator U?
High-Performance 8-Bit CMOS EPROM Microcontroller with 10-Bit A/D, 16K (x16) EPROM, 33 MHz, 80-Pin TQFP, Standard VDD Range, Extended Temperature; Note: Not recommended for new designs. Consider PIC18F8520 instead.; Note: Pins RA2 and RA3 can sink up to 60 mA.; Published: 11-Oct-2004; LatestRevisionDate: 13-Apr-2006; LatestRevisionNote: IPC-7351 Footprint Added.; DatasheetVersion: DS30289B_2000; PackageVersion: 2003; PackageReference: TQFP-80; Publisher: Altium Limited; PackageDescription: 80-Pin Thin Plastic Quad Flat Pack 0.5 mm Pitch, 1.0/0.1 mm Lead Form; Code_JEDEC: MS-026; ComponentLink1Description: Manufacturer Link; ComponentLink1URL: http://www.microchip.com; ComponentLink2Description: Datasheet; ComponentLink2URL: http://ww1.microchip.com/downloads/en/DeviceDoc/30289b.pdf; ComponentLink3Description: Packaging Specification; ComponentLink3URL: http://ww1.microchip.com/downloads/en/PackagingSpec/00049AD.pdf
footprint TQFP-80_N (Thin QFP, 80-Leads, Body 12x12mm, Pitch 0.5mm, IPC Medium Density)
footprint TQFP-80_L (Thin QFP, 80-Leads, Body 12x12mm, Pitch 0.5mm, IPC High Density)
footprint TQFP-80_M (Thin QFP, 80-Leads, Body 12x12mm, Pitch 0.5mm, IPC Low Density)
3D model PIC17C766-TQFP-80 (80-Pin Thin Plastic Quad Flat Pack 0.5 mm Pitch, 1.0/0.1 mm Lead Form)
pins: 1 RH2 (io), 2 RH3 (io), 3 RD1/AD9 (io), 4 RD0/AD8 (io), 5 RE0/ALE (io), 6 RE1/~{OE} (io), 7 RE2/~{WR} (io), 8 RE3/CAP4 (io), 9 ~{MCLR}/VPP (in), 10 TEST (in), 11 VSS (power), 12 VDD (power), 13 RF7/AN11 (io), 14 RF6/AN10 (io), 15 RF5/AN9 (io), 16 RF4/AN8 (io), 17 RF3/AN7 (io), 18 RF2/AN6 (io), 19 RH4/AN12 (io), 20 RH5/AN13 (io), 21 RH6/AN14 (io), 22 RH7/AN15 (io), 23 RF1/AN5 (io), 24 RF0/AN4 (io), 25 AVDD (power), 26 AVSS (power), 27 RG3/AN0/VREF+ (io), 28 RG2/AN1/VREF- (io), 29 RG1/AN2 (io), 30 RG0/AN3 (io), 31 VSS (power), 32 VDD (power), 33 RG4/CAP3 (io), 34 RG5/PWM3 (io), 35 RG7/TX2/CK2 (io), 36 RG6/RX2/DT2 (io), 37 RA5/TX1/CK1 (io), 38 RA4/RX1/DT1 (io), 39 RJ0 (io), 40 RJ1 (io), 41 RJ2 (io), 42 RJ3 (io), 43 RA1/T0CKI (in), 44 RA2/~{SS}/SCL (io), 45 RA3/SDI/SDA (io), 46 RB6/SCK (io), 47 RB7/SDO (io), 48 VDD (power), 49 OSC1/CLKIN (in), 50 OSC2/CLKOUT (out), 51 VSS (power), 52 RB2/PWM1 (io), 53 RB5/TCLK3 (io), 54 RB4/TCLK12 (io), 55 RB3/PWM2 (io), 56 RB1/CAP2 (io), 57 RB0/CAP1 (io), 58 RA0/INT (in), 59 RJ4 (io), 60 RJ5 (io), 61 RJ6 (io), 62 RJ7 (io), 63 RC7/AD7 (io), 64 RC6/AD6 (io), 65 RC5/AD5 (io), 66 RC4/AD4 (io), 67 RC3/AD3 (io), 68 RC2/AD2 (io), 69 RC1/AD1 (io), 70 VSS (power), 71 VDD (power), 72 RC0/AD0 (io), 73 RD7/AD15 (io), 74 RD6/AD14 (io), 75 RD5/AD13 (io), 76 RD4/AD12 (io), 77 RD3/AD11 (io), 78 RD2/AD10 (io), 79 RH0 (io), 80 RH1 (io)

## PIC17C766-33I/L
designator U?
High-Performance 8-Bit CMOS EPROM Microcontroller with 10-Bit A/D, 16K (x16) EPROM, 33 MHz, 84-Pin PLCC, Standard VDD Range, Industrial Temperature; Note: Not recommended for new designs. Consider PIC18F8520 instead.; Note: Pins RA2 and RA3 can sink up to 60 mA.; Published: 11-Oct-2004; LatestRevisionDate: 13-Apr-2006; LatestRevisionNote: IPC-7351 Footprint Added.; DatasheetVersion: DS30289B_2000; PackageVersion: 2003; PackageReference: PLCC-84; Publisher: Altium Limited; PackageDescription: 84-Pin Plastic Leaded Chip Carrier 1.27 mm Pitch; Code_JEDEC: MO-047; Code_IPC: PLCC-84; ComponentLink1Description: Manufacturer Link; ComponentLink1URL: http://www.microchip.com; ComponentLink2Description: Datasheet; ComponentLink2URL: http://ww1.microchip.com/downloads/en/DeviceDoc/30289b.pdf; ComponentLink3Description: Packaging Specification; ComponentLink3URL: http://ww1.microchip.com/downloads/en/PackagingSpec/00049AD.pdf
footprint PLCC-84_N (Leaded Chip Carrier, 84-Leads, Body 29.3x29.3mm, Pitch 1.27mm, IPC Medium Density)
footprint PLCC-84_L (Leaded Chip Carrier, 84-Leads, Body 29.3x29.3mm, Pitch 1.27mm, IPC High Density)
footprint PLCC-84_M (Leaded Chip Carrier, 84-Leads, Body 29.3x29.3mm, Pitch 1.27mm, IPC Low Density)
3D model PIC17C766-PLCC-84 (84-Pin Plastic Leaded Chip Carrier 1.27 mm Pitch)
pins: 1 NC, 2 VDD (power), 3 RC0/AD0 (io), 4 RD7/AD15 (io), 5 RD6/AD14 (io), 6 RD5/AD13 (io), 7 RD4/AD12 (io), 8 RD3/AD11 (io), 9 RD2/AD10 (io), 10 RH0 (io), 11 RH1 (io), 12 RH2 (io), 13 RH3 (io), 14 RD1/AD9 (io), 15 RD0/AD8 (io), 16 RE0/ALE (io), 17 RE1/~{OE} (io), 18 RE2/~{WR} (io), 19 RE3/CAP4 (io), 20 ~{MCLR}/VPP (in), 21 TEST (in), 22 NC, 23 VSS (power), 24 VDD (power), 25 RF7/AN11 (io), 26 RF6/AN10 (io), 27 RF5/AN9 (io), 28 RF4/AN8 (io), 29 RF3/AN7 (io), 30 RF2/AN6 (io), 31 RH4/AN12 (io), 32 RH5/AN13 (io), 33 RH6/AN14 (io), 34 RH7/AN15 (io), 35 RF1/AN5 (io), 36 RF0/AN4 (io), 37 AVDD (power), 38 AVSS (power), 39 RG3/AN0/VREF+ (io), 40 RG2/AN1/VREF- (io), 41 RG1/AN2 (io), 42 RG0/AN3 (io), 43 NC, 44 VSS (power), 45 VDD (power), 46 RG4/CAP3 (io), 47 RG5/PWM3 (io), 48 RG7/TX2/CK2 (io), 49 RG6/RX2/DT2 (io), 50 RA5/TX1/CK1 (io), 51 RA4/RX1/DT1 (io), 52 RJ0 (io), 53 RJ1 (io), 54 RJ2 (io), 55 RJ3 (io), 56 RA1/T0CKI (in), 57 RA2/~{SS}/SCL (io), 58 RA3/SDI/SDA (io), 59 RB6/SCK (io), 60 RB7/SDO (io), 61 VDD (power), 62 OSC1/CLKIN (in), 63 OSC2/CLKOUT (out), 64 NC, 65 VSS (power), 66 RB2/PWM1 (io), 67 RB5/TCLK3 (io), 68 RB4/TCLK12 (io), 69 RB3/PWM2 (io), 70 RB1/CAP2 (io), 71 RB0/CAP1 (io), 72 RA0/INT (in), 73 RJ4 (io), 74 RJ5 (io), 75 RJ6 (io), 76 RJ7 (io), 77 RC7/AD7 (io), 78 RC6/AD6 (io), 79 RC5/AD5 (io), 80 RC4/AD4 (io), 81 RC3/AD3 (io), 82 RC2/AD2 (io), 83 RC1/AD1 (io), 84 VSS (power)

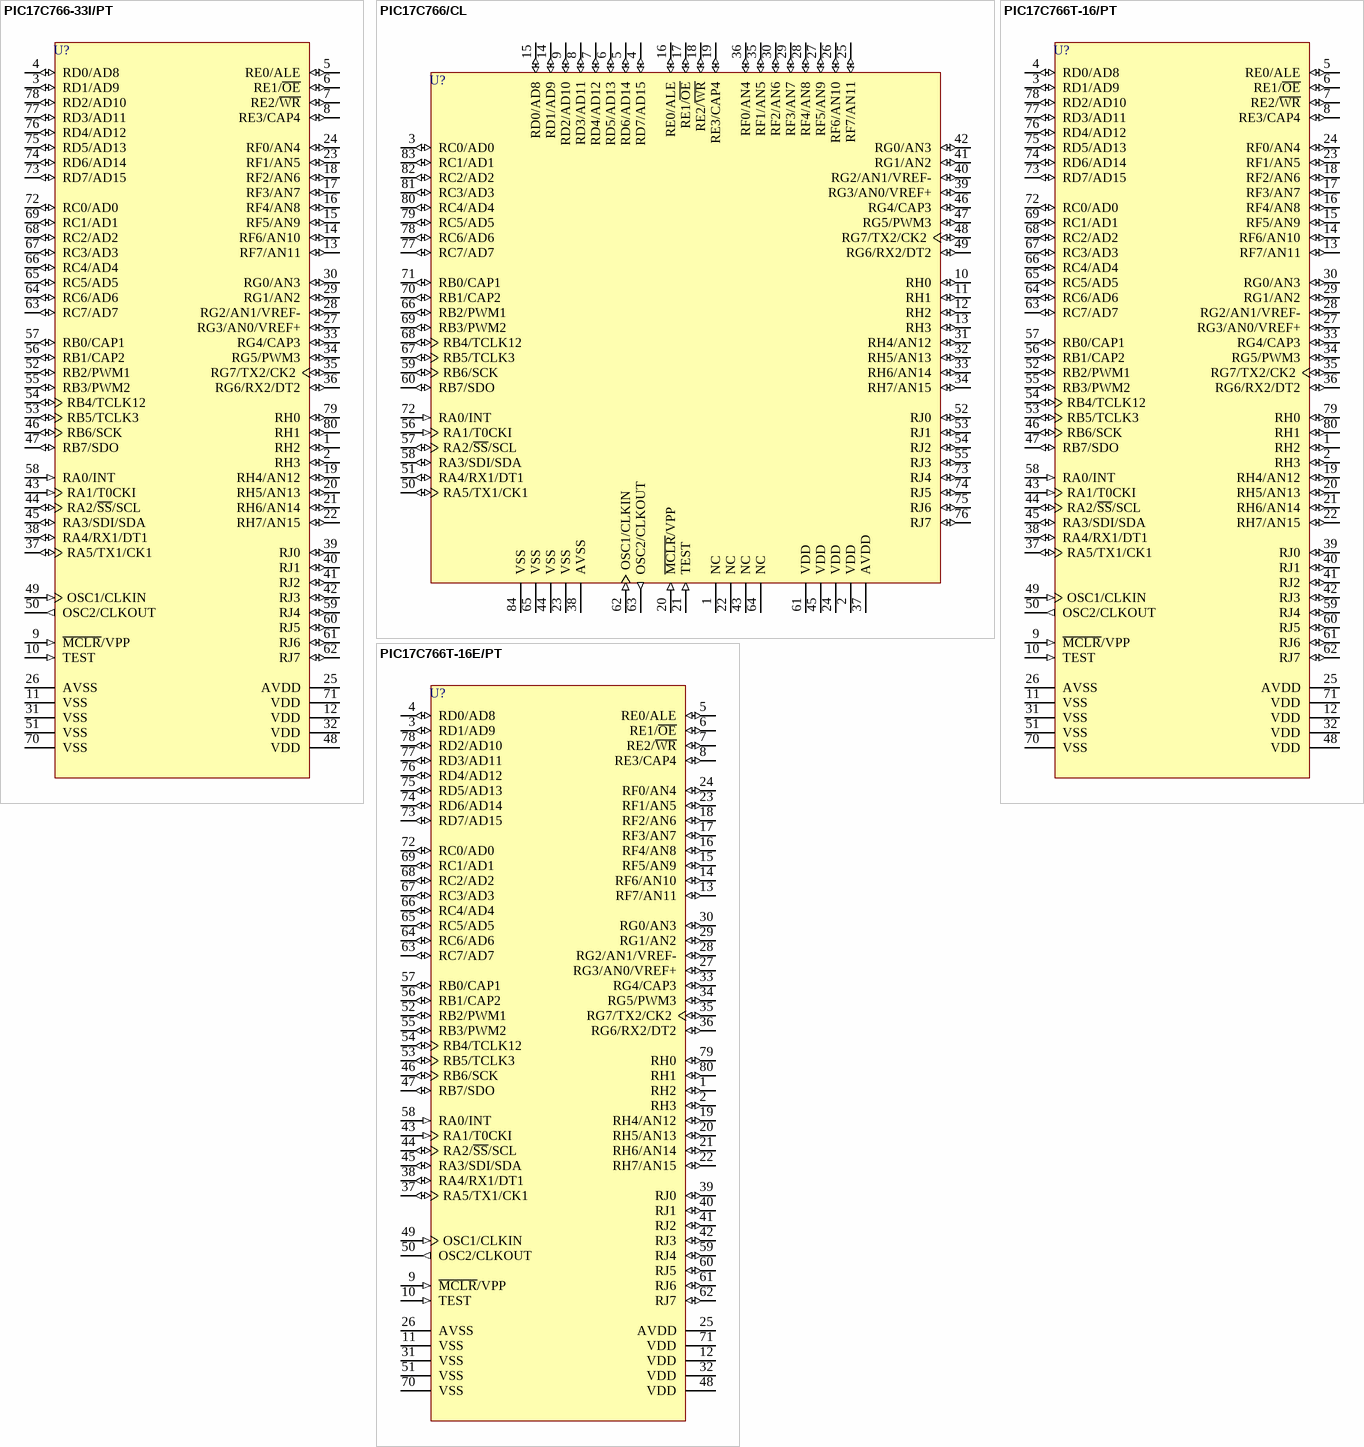
[diagram p28: symbols PIC17C766-33I/PT to PIC17C766T-16E/PT]

## PIC17C766-33I/PT
designator U?
High-Performance 8-Bit CMOS EPROM Microcontroller with 10-Bit A/D, 16K (x16) EPROM, 33 MHz, 80-Pin TQFP, Standard VDD Range, Industrial Temperature; Note: Not recommended for new designs. Consider PIC18F8520 instead.; Note: Pins RA2 and RA3 can sink up to 60 mA.; Published: 11-Oct-2004; LatestRevisionDate: 13-Apr-2006; LatestRevisionNote: IPC-7351 Footprint Added.; DatasheetVersion: DS30289B_2000; PackageVersion: 2003; PackageReference: TQFP-80; Publisher: Altium Limited; PackageDescription: 80-Pin Thin Plastic Quad Flat Pack 0.5 mm Pitch, 1.0/0.1 mm Lead Form; Code_JEDEC: MS-026; ComponentLink1Description: Manufacturer Link; ComponentLink1URL: http://www.microchip.com; ComponentLink2Description: Datasheet; ComponentLink2URL: http://ww1.microchip.com/downloads/en/DeviceDoc/30289b.pdf; ComponentLink3Description: Packaging Specification; ComponentLink3URL: http://ww1.microchip.com/downloads/en/PackagingSpec/00049AD.pdf
footprint TQFP-80_N (Thin QFP, 80-Leads, Body 12x12mm, Pitch 0.5mm, IPC Medium Density)
footprint TQFP-80_L (Thin QFP, 80-Leads, Body 12x12mm, Pitch 0.5mm, IPC High Density)
footprint TQFP-80_M (Thin QFP, 80-Leads, Body 12x12mm, Pitch 0.5mm, IPC Low Density)
3D model PIC17C766-TQFP-80 (80-Pin Thin Plastic Quad Flat Pack 0.5 mm Pitch, 1.0/0.1 mm Lead Form)
pins: 1 RH2 (io), 2 RH3 (io), 3 RD1/AD9 (io), 4 RD0/AD8 (io), 5 RE0/ALE (io), 6 RE1/~{OE} (io), 7 RE2/~{WR} (io), 8 RE3/CAP4 (io), 9 ~{MCLR}/VPP (in), 10 TEST (in), 11 VSS (power), 12 VDD (power), 13 RF7/AN11 (io), 14 RF6/AN10 (io), 15 RF5/AN9 (io), 16 RF4/AN8 (io), 17 RF3/AN7 (io), 18 RF2/AN6 (io), 19 RH4/AN12 (io), 20 RH5/AN13 (io), 21 RH6/AN14 (io), 22 RH7/AN15 (io), 23 RF1/AN5 (io), 24 RF0/AN4 (io), 25 AVDD (power), 26 AVSS (power), 27 RG3/AN0/VREF+ (io), 28 RG2/AN1/VREF- (io), 29 RG1/AN2 (io), 30 RG0/AN3 (io), 31 VSS (power), 32 VDD (power), 33 RG4/CAP3 (io), 34 RG5/PWM3 (io), 35 RG7/TX2/CK2 (io), 36 RG6/RX2/DT2 (io), 37 RA5/TX1/CK1 (io), 38 RA4/RX1/DT1 (io), 39 RJ0 (io), 40 RJ1 (io), 41 RJ2 (io), 42 RJ3 (io), 43 RA1/T0CKI (in), 44 RA2/~{SS}/SCL (io), 45 RA3/SDI/SDA (io), 46 RB6/SCK (io), 47 RB7/SDO (io), 48 VDD (power), 49 OSC1/CLKIN (in), 50 OSC2/CLKOUT (out), 51 VSS (power), 52 RB2/PWM1 (io), 53 RB5/TCLK3 (io), 54 RB4/TCLK12 (io), 55 RB3/PWM2 (io), 56 RB1/CAP2 (io), 57 RB0/CAP1 (io), 58 RA0/INT (in), 59 RJ4 (io), 60 RJ5 (io), 61 RJ6 (io), 62 RJ7 (io), 63 RC7/AD7 (io), 64 RC6/AD6 (io), 65 RC5/AD5 (io), 66 RC4/AD4 (io), 67 RC3/AD3 (io), 68 RC2/AD2 (io), 69 RC1/AD1 (io), 70 VSS (power), 71 VDD (power), 72 RC0/AD0 (io), 73 RD7/AD15 (io), 74 RD6/AD14 (io), 75 RD5/AD13 (io), 76 RD4/AD12 (io), 77 RD3/AD11 (io), 78 RD2/AD10 (io), 79 RH0 (io), 80 RH1 (io)

## PIC17C766/CL
designator U?
High-Performance 8-Bit CMOS EPROM Microcontroller with 10-Bit A/D, 16K (x16) EPROM, UV Erasable, 84-Pin CERQUAD, Standard VDD Range; Note: Not recommended for new designs. Consider PIC18F8520 instead.; Note: Pins RA2 and RA3 can sink up to 60 mA.; Published: 11-Oct-2004; LatestRevisionDate: 13-Apr-2006; LatestRevisionNote: IPC-7351 Footprint Added.; DatasheetVersion: DS30289B_2000; PackageVersion: 2003; PackageReference: CERQUAD-84; Publisher: Altium Limited; PackageDescription: 84-Pin Window Ceramic Leaded Chip Carrier 1.27 mm Pitch; Code_JEDEC: MO-087; Code_IPC: PLCC-84; ComponentLink1Description: Manufacturer Link; ComponentLink1URL: http://www.microchip.com; ComponentLink2Description: Datasheet; ComponentLink2URL: http://ww1.microchip.com/downloads/en/DeviceDoc/30289b.pdf; ComponentLink3Description: Packaging Specification; ComponentLink3URL: http://ww1.microchip.com/downloads/en/PackagingSpec/00049AD.pdf
footprint CERQUAD-84_N (Leaded Chip Carrier, 84-Leads, Body 29x29mm, Pitch 1.27mm, IPC Medium Density)
footprint CERQUAD-84_L (Leaded Chip Carrier, 84-Leads, Body 29x29mm, Pitch 1.27mm, IPC High Density)
footprint CERQUAD-84_M (Leaded Chip Carrier, 84-Leads, Body 29x29mm, Pitch 1.27mm, IPC Low Density)
3D model PIC17C766-PLCC-84 (84-Pin Window Ceramic Leaded Chip Carrier 1.27 mm Pitch)
pins: 1 NC, 2 VDD (power), 3 RC0/AD0 (io), 4 RD7/AD15 (io), 5 RD6/AD14 (io), 6 RD5/AD13 (io), 7 RD4/AD12 (io), 8 RD3/AD11 (io), 9 RD2/AD10 (io), 10 RH0 (io), 11 RH1 (io), 12 RH2 (io), 13 RH3 (io), 14 RD1/AD9 (io), 15 RD0/AD8 (io), 16 RE0/ALE (io), 17 RE1/~{OE} (io), 18 RE2/~{WR} (io), 19 RE3/CAP4 (io), 20 ~{MCLR}/VPP (in), 21 TEST (in), 22 NC, 23 VSS (power), 24 VDD (power), 25 RF7/AN11 (io), 26 RF6/AN10 (io), 27 RF5/AN9 (io), 28 RF4/AN8 (io), 29 RF3/AN7 (io), 30 RF2/AN6 (io), 31 RH4/AN12 (io), 32 RH5/AN13 (io), 33 RH6/AN14 (io), 34 RH7/AN15 (io), 35 RF1/AN5 (io), 36 RF0/AN4 (io), 37 AVDD (power), 38 AVSS (power), 39 RG3/AN0/VREF+ (io), 40 RG2/AN1/VREF- (io), 41 RG1/AN2 (io), 42 RG0/AN3 (io), 43 NC, 44 VSS (power), 45 VDD (power), 46 RG4/CAP3 (io), 47 RG5/PWM3 (io), 48 RG7/TX2/CK2 (io), 49 RG6/RX2/DT2 (io), 50 RA5/TX1/CK1 (io), 51 RA4/RX1/DT1 (io), 52 RJ0 (io), 53 RJ1 (io), 54 RJ2 (io), 55 RJ3 (io), 56 RA1/T0CKI (in), 57 RA2/~{SS}/SCL (io), 58 RA3/SDI/SDA (io), 59 RB6/SCK (io), 60 RB7/SDO (io), 61 VDD (power), 62 OSC1/CLKIN (in), 63 OSC2/CLKOUT (out), 64 NC, 65 VSS (power), 66 RB2/PWM1 (io), 67 RB5/TCLK3 (io), 68 RB4/TCLK12 (io), 69 RB3/PWM2 (io), 70 RB1/CAP2 (io), 71 RB0/CAP1 (io), 72 RA0/INT (in), 73 RJ4 (io), 74 RJ5 (io), 75 RJ6 (io), 76 RJ7 (io), 77 RC7/AD7 (io), 78 RC6/AD6 (io), 79 RC5/AD5 (io), 80 RC4/AD4 (io), 81 RC3/AD3 (io), 82 RC2/AD2 (io), 83 RC1/AD1 (io), 84 VSS (power)

## PIC17C766T-16/PT
designator U?
High-Performance 8-Bit CMOS EPROM Microcontroller with 10-Bit A/D, 16K (x16) EPROM, 16 MHz, 80-Pin TQFP, Standard VDD Range, Commercial Temperature, Tape and Reel; Note: Not recommended for new designs. Consider PIC18F8520 instead.; Note: Pins RA2 and RA3 can sink up to 60 mA.; Published: 11-Oct-2004; LatestRevisionDate: 13-Apr-2006; LatestRevisionNote: IPC-7351 Footprint Added.; DatasheetVersion: DS30289B_2000; PackageVersion: 2003; PackageReference: TQFP-80; Publisher: Altium Limited; PackageDescription: 80-Pin Thin Plastic Quad Flat Pack 0.5 mm Pitch, 1.0/0.1 mm Lead Form; Code_JEDEC: MS-026; ComponentLink1Description: Manufacturer Link; ComponentLink1URL: http://www.microchip.com; ComponentLink2Description: Datasheet; ComponentLink2URL: http://ww1.microchip.com/downloads/en/DeviceDoc/30289b.pdf; ComponentLink3Description: Packaging Specification; ComponentLink3URL: http://ww1.microchip.com/downloads/en/PackagingSpec/00049AD.pdf
footprint TQFP-80_N (Thin QFP, 80-Leads, Body 12x12mm, Pitch 0.5mm, IPC Medium Density)
footprint TQFP-80_L (Thin QFP, 80-Leads, Body 12x12mm, Pitch 0.5mm, IPC High Density)
footprint TQFP-80_M (Thin QFP, 80-Leads, Body 12x12mm, Pitch 0.5mm, IPC Low Density)
3D model PIC17C766-TQFP-80 (80-Pin Thin Plastic Quad Flat Pack 0.5 mm Pitch, 1.0/0.1 mm Lead Form)
pins: 1 RH2 (io), 2 RH3 (io), 3 RD1/AD9 (io), 4 RD0/AD8 (io), 5 RE0/ALE (io), 6 RE1/~{OE} (io), 7 RE2/~{WR} (io), 8 RE3/CAP4 (io), 9 ~{MCLR}/VPP (in), 10 TEST (in), 11 VSS (power), 12 VDD (power), 13 RF7/AN11 (io), 14 RF6/AN10 (io), 15 RF5/AN9 (io), 16 RF4/AN8 (io), 17 RF3/AN7 (io), 18 RF2/AN6 (io), 19 RH4/AN12 (io), 20 RH5/AN13 (io), 21 RH6/AN14 (io), 22 RH7/AN15 (io), 23 RF1/AN5 (io), 24 RF0/AN4 (io), 25 AVDD (power), 26 AVSS (power), 27 RG3/AN0/VREF+ (io), 28 RG2/AN1/VREF- (io), 29 RG1/AN2 (io), 30 RG0/AN3 (io), 31 VSS (power), 32 VDD (power), 33 RG4/CAP3 (io), 34 RG5/PWM3 (io), 35 RG7/TX2/CK2 (io), 36 RG6/RX2/DT2 (io), 37 RA5/TX1/CK1 (io), 38 RA4/RX1/DT1 (io), 39 RJ0 (io), 40 RJ1 (io), 41 RJ2 (io), 42 RJ3 (io), 43 RA1/T0CKI (in), 44 RA2/~{SS}/SCL (io), 45 RA3/SDI/SDA (io), 46 RB6/SCK (io), 47 RB7/SDO (io), 48 VDD (power), 49 OSC1/CLKIN (in), 50 OSC2/CLKOUT (out), 51 VSS (power), 52 RB2/PWM1 (io), 53 RB5/TCLK3 (io), 54 RB4/TCLK12 (io), 55 RB3/PWM2 (io), 56 RB1/CAP2 (io), 57 RB0/CAP1 (io), 58 RA0/INT (in), 59 RJ4 (io), 60 RJ5 (io), 61 RJ6 (io), 62 RJ7 (io), 63 RC7/AD7 (io), 64 RC6/AD6 (io), 65 RC5/AD5 (io), 66 RC4/AD4 (io), 67 RC3/AD3 (io), 68 RC2/AD2 (io), 69 RC1/AD1 (io), 70 VSS (power), 71 VDD (power), 72 RC0/AD0 (io), 73 RD7/AD15 (io), 74 RD6/AD14 (io), 75 RD5/AD13 (io), 76 RD4/AD12 (io), 77 RD3/AD11 (io), 78 RD2/AD10 (io), 79 RH0 (io), 80 RH1 (io)

## PIC17C766T-16E/PT
designator U?
High-Performance 8-Bit CMOS EPROM Microcontroller with 10-Bit A/D, 16K (x16) EPROM, 16 MHz, 80-Pin TQFP, Standard VDD Range, Extended Temperature, Tape and Reel; Note: Not recommended for new designs. Consider PIC18F8520 instead.; Note: Pins RA2 and RA3 can sink up to 60 mA.; Published: 11-Oct-2004; LatestRevisionDate: 13-Apr-2006; LatestRevisionNote: IPC-7351 Footprint Added.; DatasheetVersion: DS30289B_2000; PackageVersion: 2003; PackageReference: TQFP-80; Publisher: Altium Limited; PackageDescription: 80-Pin Thin Plastic Quad Flat Pack 0.5 mm Pitch, 1.0/0.1 mm Lead Form; Code_JEDEC: MS-026; ComponentLink1Description: Manufacturer Link; ComponentLink1URL: http://www.microchip.com; ComponentLink2Description: Datasheet; ComponentLink2URL: http://ww1.microchip.com/downloads/en/DeviceDoc/30289b.pdf; ComponentLink3Description: Packaging Specification; ComponentLink3URL: http://ww1.microchip.com/downloads/en/PackagingSpec/00049AD.pdf
footprint TQFP-80_N (Thin QFP, 80-Leads, Body 12x12mm, Pitch 0.5mm, IPC Medium Density)
footprint TQFP-80_L (Thin QFP, 80-Leads, Body 12x12mm, Pitch 0.5mm, IPC High Density)
footprint TQFP-80_M (Thin QFP, 80-Leads, Body 12x12mm, Pitch 0.5mm, IPC Low Density)
3D model PIC17C766-TQFP-80 (80-Pin Thin Plastic Quad Flat Pack 0.5 mm Pitch, 1.0/0.1 mm Lead Form)
pins: 1 RH2 (io), 2 RH3 (io), 3 RD1/AD9 (io), 4 RD0/AD8 (io), 5 RE0/ALE (io), 6 RE1/~{OE} (io), 7 RE2/~{WR} (io), 8 RE3/CAP4 (io), 9 ~{MCLR}/VPP (in), 10 TEST (in), 11 VSS (power), 12 VDD (power), 13 RF7/AN11 (io), 14 RF6/AN10 (io), 15 RF5/AN9 (io), 16 RF4/AN8 (io), 17 RF3/AN7 (io), 18 RF2/AN6 (io), 19 RH4/AN12 (io), 20 RH5/AN13 (io), 21 RH6/AN14 (io), 22 RH7/AN15 (io), 23 RF1/AN5 (io), 24 RF0/AN4 (io), 25 AVDD (power), 26 AVSS (power), 27 RG3/AN0/VREF+ (io), 28 RG2/AN1/VREF- (io), 29 RG1/AN2 (io), 30 RG0/AN3 (io), 31 VSS (power), 32 VDD (power), 33 RG4/CAP3 (io), 34 RG5/PWM3 (io), 35 RG7/TX2/CK2 (io), 36 RG6/RX2/DT2 (io), 37 RA5/TX1/CK1 (io), 38 RA4/RX1/DT1 (io), 39 RJ0 (io), 40 RJ1 (io), 41 RJ2 (io), 42 RJ3 (io), 43 RA1/T0CKI (in), 44 RA2/~{SS}/SCL (io), 45 RA3/SDI/SDA (io), 46 RB6/SCK (io), 47 RB7/SDO (io), 48 VDD (power), 49 OSC1/CLKIN (in), 50 OSC2/CLKOUT (out), 51 VSS (power), 52 RB2/PWM1 (io), 53 RB5/TCLK3 (io), 54 RB4/TCLK12 (io), 55 RB3/PWM2 (io), 56 RB1/CAP2 (io), 57 RB0/CAP1 (io), 58 RA0/INT (in), 59 RJ4 (io), 60 RJ5 (io), 61 RJ6 (io), 62 RJ7 (io), 63 RC7/AD7 (io), 64 RC6/AD6 (io), 65 RC5/AD5 (io), 66 RC4/AD4 (io), 67 RC3/AD3 (io), 68 RC2/AD2 (io), 69 RC1/AD1 (io), 70 VSS (power), 71 VDD (power), 72 RC0/AD0 (io), 73 RD7/AD15 (io), 74 RD6/AD14 (io), 75 RD5/AD13 (io), 76 RD4/AD12 (io), 77 RD3/AD11 (io), 78 RD2/AD10 (io), 79 RH0 (io), 80 RH1 (io)

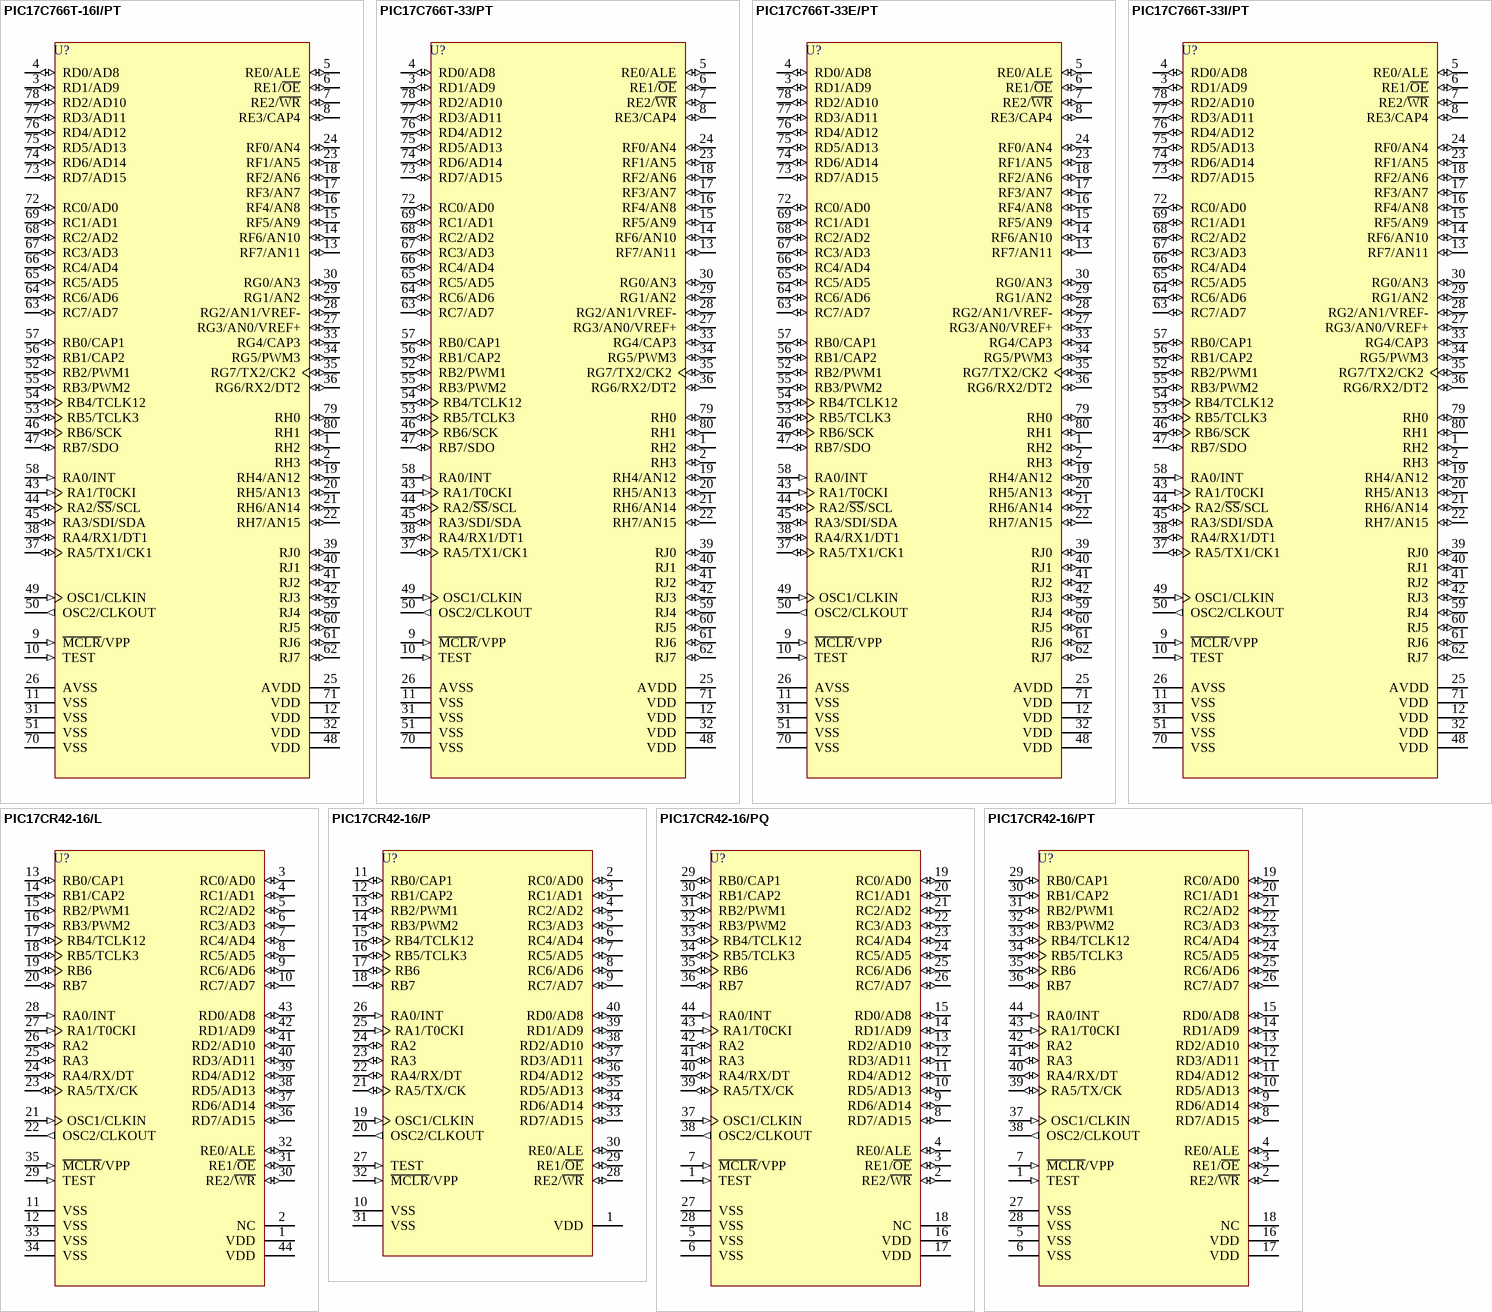
[diagram p29: symbols PIC17C766T-16I/PT to PIC17CR42-16/PT]

## PIC17C766T-16I/PT
designator U?
High-Performance 8-Bit CMOS EPROM Microcontroller with 10-Bit A/D, 16K (x16) EPROM, 16 MHz, 80-Pin TQFP, Standard VDD Range, Industrial Temperature, Tape and Reel; Note: Not recommended for new designs. Consider PIC18F8520 instead.; Note: Pins RA2 and RA3 can sink up to 60 mA.; Published: 11-Oct-2004; LatestRevisionDate: 13-Apr-2006; LatestRevisionNote: IPC-7351 Footprint Added.; DatasheetVersion: DS30289B_2000; PackageVersion: 2003; PackageReference: TQFP-80; Publisher: Altium Limited; PackageDescription: 80-Pin Thin Plastic Quad Flat Pack 0.5 mm Pitch, 1.0/0.1 mm Lead Form; Code_JEDEC: MS-026; ComponentLink1Description: Manufacturer Link; ComponentLink1URL: http://www.microchip.com; ComponentLink2Description: Datasheet; ComponentLink2URL: http://ww1.microchip.com/downloads/en/DeviceDoc/30289b.pdf; ComponentLink3Description: Packaging Specification; ComponentLink3URL: http://ww1.microchip.com/downloads/en/PackagingSpec/00049AD.pdf
footprint TQFP-80_N (Thin QFP, 80-Leads, Body 12x12mm, Pitch 0.5mm, IPC Medium Density)
footprint TQFP-80_L (Thin QFP, 80-Leads, Body 12x12mm, Pitch 0.5mm, IPC High Density)
footprint TQFP-80_M (Thin QFP, 80-Leads, Body 12x12mm, Pitch 0.5mm, IPC Low Density)
3D model PIC17C766-TQFP-80 (80-Pin Thin Plastic Quad Flat Pack 0.5 mm Pitch, 1.0/0.1 mm Lead Form)
pins: 1 RH2 (io), 2 RH3 (io), 3 RD1/AD9 (io), 4 RD0/AD8 (io), 5 RE0/ALE (io), 6 RE1/~{OE} (io), 7 RE2/~{WR} (io), 8 RE3/CAP4 (io), 9 ~{MCLR}/VPP (in), 10 TEST (in), 11 VSS (power), 12 VDD (power), 13 RF7/AN11 (io), 14 RF6/AN10 (io), 15 RF5/AN9 (io), 16 RF4/AN8 (io), 17 RF3/AN7 (io), 18 RF2/AN6 (io), 19 RH4/AN12 (io), 20 RH5/AN13 (io), 21 RH6/AN14 (io), 22 RH7/AN15 (io), 23 RF1/AN5 (io), 24 RF0/AN4 (io), 25 AVDD (power), 26 AVSS (power), 27 RG3/AN0/VREF+ (io), 28 RG2/AN1/VREF- (io), 29 RG1/AN2 (io), 30 RG0/AN3 (io), 31 VSS (power), 32 VDD (power), 33 RG4/CAP3 (io), 34 RG5/PWM3 (io), 35 RG7/TX2/CK2 (io), 36 RG6/RX2/DT2 (io), 37 RA5/TX1/CK1 (io), 38 RA4/RX1/DT1 (io), 39 RJ0 (io), 40 RJ1 (io), 41 RJ2 (io), 42 RJ3 (io), 43 RA1/T0CKI (in), 44 RA2/~{SS}/SCL (io), 45 RA3/SDI/SDA (io), 46 RB6/SCK (io), 47 RB7/SDO (io), 48 VDD (power), 49 OSC1/CLKIN (in), 50 OSC2/CLKOUT (out), 51 VSS (power), 52 RB2/PWM1 (io), 53 RB5/TCLK3 (io), 54 RB4/TCLK12 (io), 55 RB3/PWM2 (io), 56 RB1/CAP2 (io), 57 RB0/CAP1 (io), 58 RA0/INT (in), 59 RJ4 (io), 60 RJ5 (io), 61 RJ6 (io), 62 RJ7 (io), 63 RC7/AD7 (io), 64 RC6/AD6 (io), 65 RC5/AD5 (io), 66 RC4/AD4 (io), 67 RC3/AD3 (io), 68 RC2/AD2 (io), 69 RC1/AD1 (io), 70 VSS (power), 71 VDD (power), 72 RC0/AD0 (io), 73 RD7/AD15 (io), 74 RD6/AD14 (io), 75 RD5/AD13 (io), 76 RD4/AD12 (io), 77 RD3/AD11 (io), 78 RD2/AD10 (io), 79 RH0 (io), 80 RH1 (io)

## PIC17C766T-33/PT
designator U?
High-Performance 8-Bit CMOS EPROM Microcontroller with 10-Bit A/D, 16K (x16) EPROM, 33 MHz, 80-Pin TQFP, Standard VDD Range, Commercial Temperature, Tape and Reel; Note: Not recommended for new designs. Consider PIC18F8520 instead.; Note: Pins RA2 and RA3 can sink up to 60 mA.; Published: 11-Oct-2004; LatestRevisionDate: 13-Apr-2006; LatestRevisionNote: IPC-7351 Footprint Added.; DatasheetVersion: DS30289B_2000; PackageVersion: 2003; PackageReference: TQFP-80; Publisher: Altium Limited; PackageDescription: 80-Pin Thin Plastic Quad Flat Pack 0.5 mm Pitch, 1.0/0.1 mm Lead Form; Code_JEDEC: MS-026; ComponentLink1Description: Manufacturer Link; ComponentLink1URL: http://www.microchip.com; ComponentLink2Description: Datasheet; ComponentLink2URL: http://ww1.microchip.com/downloads/en/DeviceDoc/30289b.pdf; ComponentLink3Description: Packaging Specification; ComponentLink3URL: http://ww1.microchip.com/downloads/en/PackagingSpec/00049AD.pdf
footprint TQFP-80_N (Thin QFP, 80-Leads, Body 12x12mm, Pitch 0.5mm, IPC Medium Density)
footprint TQFP-80_L (Thin QFP, 80-Leads, Body 12x12mm, Pitch 0.5mm, IPC High Density)
footprint TQFP-80_M (Thin QFP, 80-Leads, Body 12x12mm, Pitch 0.5mm, IPC Low Density)
3D model PIC17C766-TQFP-80 (80-Pin Thin Plastic Quad Flat Pack 0.5 mm Pitch, 1.0/0.1 mm Lead Form)
pins: 1 RH2 (io), 2 RH3 (io), 3 RD1/AD9 (io), 4 RD0/AD8 (io), 5 RE0/ALE (io), 6 RE1/~{OE} (io), 7 RE2/~{WR} (io), 8 RE3/CAP4 (io), 9 ~{MCLR}/VPP (in), 10 TEST (in), 11 VSS (power), 12 VDD (power), 13 RF7/AN11 (io), 14 RF6/AN10 (io), 15 RF5/AN9 (io), 16 RF4/AN8 (io), 17 RF3/AN7 (io), 18 RF2/AN6 (io), 19 RH4/AN12 (io), 20 RH5/AN13 (io), 21 RH6/AN14 (io), 22 RH7/AN15 (io), 23 RF1/AN5 (io), 24 RF0/AN4 (io), 25 AVDD (power), 26 AVSS (power), 27 RG3/AN0/VREF+ (io), 28 RG2/AN1/VREF- (io), 29 RG1/AN2 (io), 30 RG0/AN3 (io), 31 VSS (power), 32 VDD (power), 33 RG4/CAP3 (io), 34 RG5/PWM3 (io), 35 RG7/TX2/CK2 (io), 36 RG6/RX2/DT2 (io), 37 RA5/TX1/CK1 (io), 38 RA4/RX1/DT1 (io), 39 RJ0 (io), 40 RJ1 (io), 41 RJ2 (io), 42 RJ3 (io), 43 RA1/T0CKI (in), 44 RA2/~{SS}/SCL (io), 45 RA3/SDI/SDA (io), 46 RB6/SCK (io), 47 RB7/SDO (io), 48 VDD (power), 49 OSC1/CLKIN (in), 50 OSC2/CLKOUT (out), 51 VSS (power), 52 RB2/PWM1 (io), 53 RB5/TCLK3 (io), 54 RB4/TCLK12 (io), 55 RB3/PWM2 (io), 56 RB1/CAP2 (io), 57 RB0/CAP1 (io), 58 RA0/INT (in), 59 RJ4 (io), 60 RJ5 (io), 61 RJ6 (io), 62 RJ7 (io), 63 RC7/AD7 (io), 64 RC6/AD6 (io), 65 RC5/AD5 (io), 66 RC4/AD4 (io), 67 RC3/AD3 (io), 68 RC2/AD2 (io), 69 RC1/AD1 (io), 70 VSS (power), 71 VDD (power), 72 RC0/AD0 (io), 73 RD7/AD15 (io), 74 RD6/AD14 (io), 75 RD5/AD13 (io), 76 RD4/AD12 (io), 77 RD3/AD11 (io), 78 RD2/AD10 (io), 79 RH0 (io), 80 RH1 (io)